# Altium schematic symbol library ic-power-supply.SchLib: 72 symbols
Pins are listed as number, name and electrical type; pins without a type are passive.

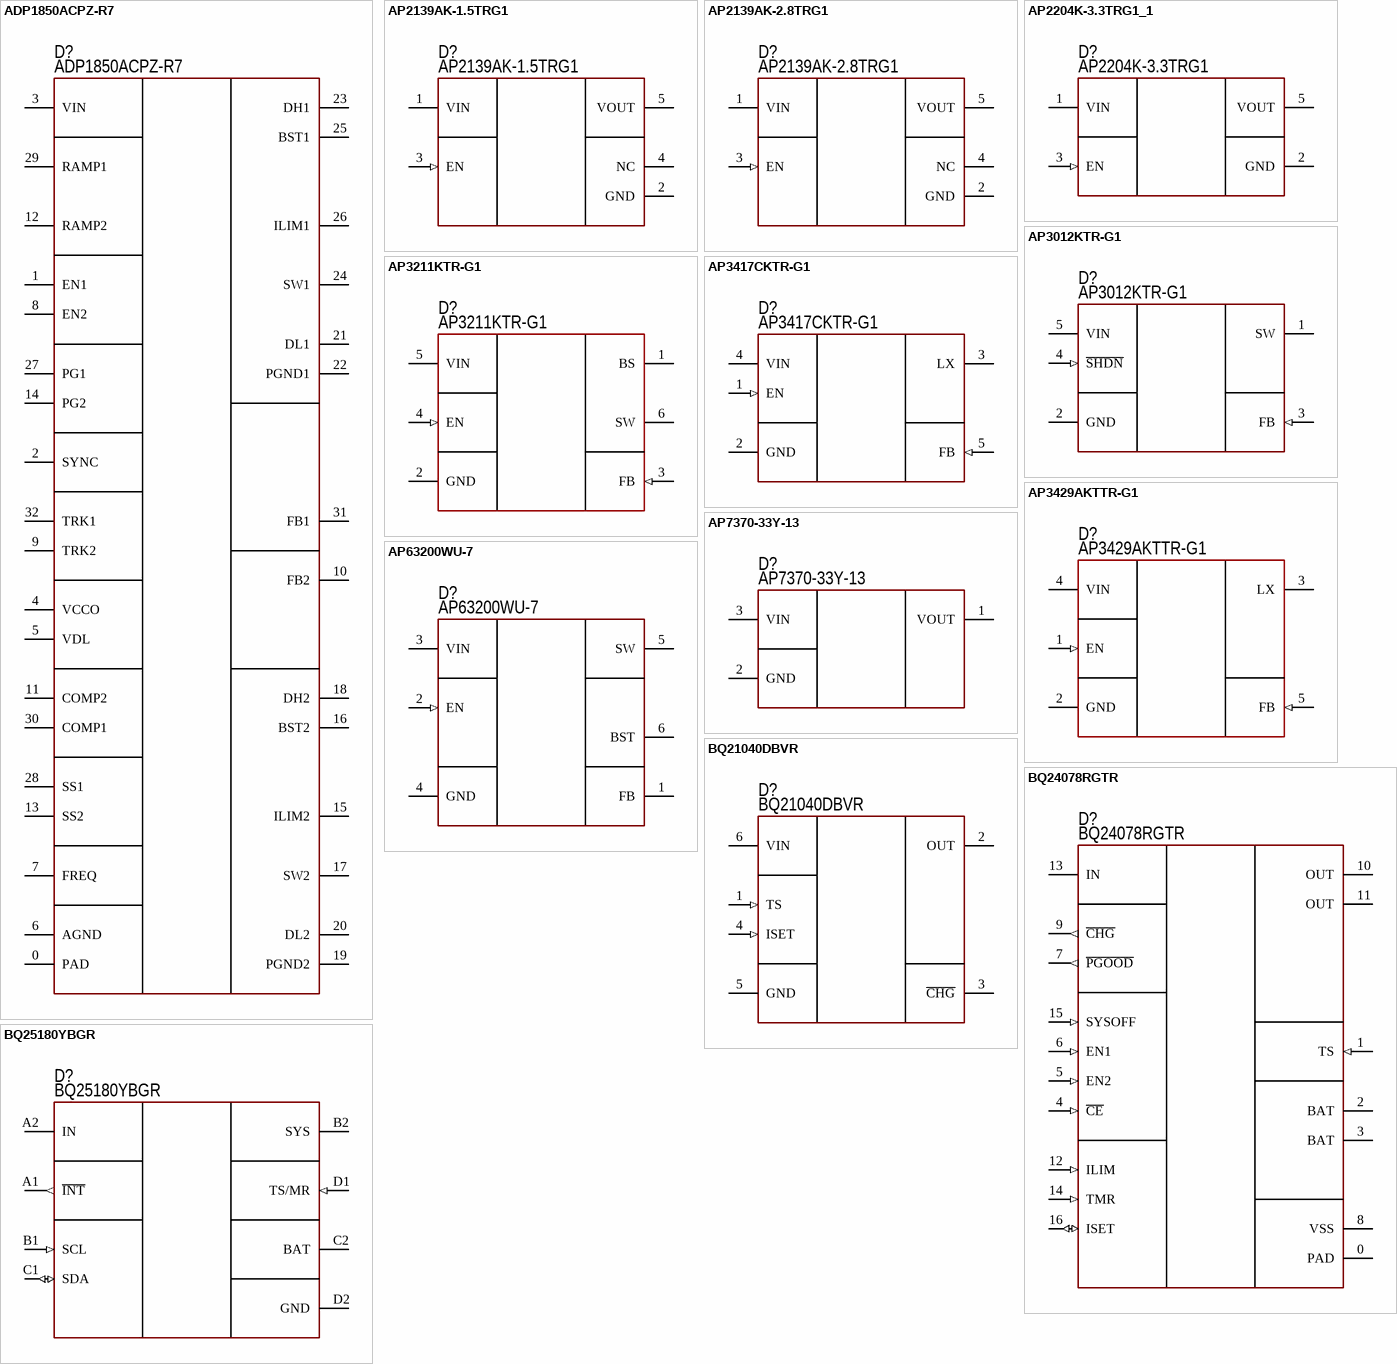
[diagram p0: symbols ADP1850ACPZ-R7 to BQ25180YBGR]

## ADP1850ACPZ-R7
designator D?  PartNumber: ADP1850ACPZ-R7
2 phase buck; Manufacturer: Analog Devices; ValueManufacturerPartNumber: DC/DC buck converter, input 2.75...20V, 200...1500 kHz, output 0.6...17V, 2 phase, -40...+85°C, 32-VFQFN (5x5); VoltageInput: input 2.75...20V; Frequency: 200...1500 kHz; CurrentOutput: 2 phase; VoltageOutput: output 0.6...17V; HelpURL: https://www.digikey.com/product-detail/en/analog-devices-inc/ADP1850ACPZ-R7/ADP1850ACPZ-R7CT-ND/2609853; Package: 32-VFQFN (5x5); ComponentType: DC/DC buck converter; Temperature: -40...+85°C
footprint 32-QFN (5x5 mm, pitch 0.5 mm, power pad)
pins: 0 PAD, 1 EN1, 2 SYNC, 3 VIN, 4 VCCO, 5 VDL, 6 AGND, 7 FREQ, 8 EN2, 9 TRK2, 10 FB2, 11 COMP2, 12 RAMP2, 13 SS2, 14 PG2, 15 ILIM2, 16 BST2, 17 SW2, 18 DH2, 19 PGND2, 20 DL2, 21 DL1, 22 PGND1, 23 DH1, 24 SW1, 25 BST1, 26 ILIM1, 27 PG1, 28 SS1, 29 RAMP1, 30 COMP1, 31 FB1, 32 TRK1

## AP2139AK-1.5TRG1
designator D?  PartNumber: AP2139AK-1.5TRG1
Linear voltage regulator 1.5V; Manufacturer: Diodes Incorporated; ValueManufacturerPartNumber: Linear voltage regulator, 1.6...6V, 1V, 1.5V, 0.25A, -40...+85°C, SOT23-5; VoltageInput: 1.6...6V; MaxDropout: 1V; CurrentOutput: 0.25A; HelpURL: https://www.lcsc.com/datasheet/lcsc_datasheet_2304140030_Diodes-Incorporated-AP2139AK-1-5TRG1_C460336.pdf; Package: SOT23-5; ComponentType: Linear voltage regulator; Temperature: -40...+85°C; VoltageOutput: 1.5V
footprint SOT23-5 (pitch 0.95 mm)
pins: 1 VIN (power), 2 GND (power), 3 EN (in), 4 NC, 5 VOUT (power)

## AP2139AK-2.8TRG1
designator D?  PartNumber: AP2139AK-2.8TRG1
Linear voltage regulator 2.8V; Manufacturer: Diodes Incorporated; ValueManufacturerPartNumber: Linear voltage regulator, 2.9...6V, 0.5V, 1.5V, 0.25A, -40...+85°C, SOT23-5; VoltageInput: 2.9...6V; MaxDropout: 0.5V; CurrentOutput: 0.25A; VoltageOutput: 1.5V; HelpURL: https://www.lcsc.com/datasheet/lcsc_datasheet_2304140030_Diodes-Incorporated-AP2139AK-1-5TRG1_C460336.pdf; Package: SOT23-5; ComponentType: Linear voltage regulator; Temperature: -40...+85°C
footprint SOT23-5 (pitch 0.95 mm)
pins: 1 VIN (power), 2 GND (power), 3 EN (in), 4 NC, 5 VOUT (power)

## AP2204K-3.3TRG1_1
designator D?  PartNumber: AP2204K-3.3TRG1
Linear voltage regulator; Manufacturer: Diodes Incorporated; ValueManufacturerPartNumber: Linear voltage regulator, input 4...24V, 0.5V, output 3.3V, 0.15A, -40...+85°C, SOT23-6; VoltageInput: input 4...24V; MaxDropout: 0.5V; CurrentOutput: 0.15A; VoltageOutput: output 3.3V; HelpURL: https://www.digikey.com/product-detail/en/diodes-incorporated/AP2204K-3.3TRG1/AP2204K-3.3TRG1DICT-ND/4505288; Package: SOT23-6; ComponentType: Linear voltage regulator; Temperature: -40...+85°C
footprint SOT23-5 (pitch 0.95 mm)
pins: 1 VIN, 2 GND, 3 EN (in), 5 VOUT

## AP3012KTR-G1
designator D?  PartNumber: AP3012KTR-G1
Boost converter; Manufacturer: Diodes Incorporated; ValueManufacturerPartNumber: DC/DC boost converter, input 2.6...16V, 1.5MHz, output 3...29V, 0.5A, -40...+85°C, SOT23-5; VoltageInput: input 2.6...16V; Frequency: 1.5MHz; CurrentOutput: 0.5A; VoltageOutput: output 3...29V; HelpURL: https://www.digikey.com/product-detail/en/diodes-incorporated/AP3012KTR-G1/AP3012KTR-G1DICT-ND/4505297; Package: SOT23-5; ComponentType: DC/DC boost converter; Temperature: -40...+85°C
footprint SOT23-5 (pitch 0.95 mm)
pins: 1 SW, 2 GND, 3 FB (in), 4 ~{SHDN} (in), 5 VIN

## AP3211KTR-G1
designator D?  PartNumber: AP3211KTR-G1
Buck converter; Manufacturer: Diodes Incorporated; ValueManufacturerPartNumber: DC/DC buck converter, input 4.5...18V, 1.4MHz, output 0.81...15V, 1.5A, -40...+85°C, SOT23-6; VoltageInput: input 4.5...18V; Frequency: 1.4MHz; CurrentOutput: 1.5A; VoltageOutput: output 0.81...15V; HelpURL: https://www.digikey.com/product-detail/en/diodes-incorporated/AP3211KTR-G1/AP3211KTR-G1DICT-ND/4505305; Package: SOT23-6; ComponentType: DC/DC buck converter; Temperature: -40...+85°C
footprint SOT23-6 (pitch 0.95 mm)
pins: 1 BS, 2 GND, 3 FB (in), 4 EN (in), 5 VIN, 6 SW

## AP3417CKTR-G1
designator D?  PartNumber: AP3417CKTR-G1
Buck converter; Manufacturer: Diodes Incorporated; ValueManufacturerPartNumber: DC/DC buck converter, input 2.5...5.5V, 1.5MHz, output 0.6...4.95V, 1A, -40...+85°C, SOT23-5; VoltageInput: input 2.5...5.5V; Frequency: 1.5MHz; CurrentOutput: 1A; VoltageOutput: output 0.6...4.95V; HelpURL: https://www.digikey.com/product-detail/en/diodes-incorporated/AP3417CKTR-G1/AP3417CKTR-G1DICT-ND/4505308; Package: SOT23-5; ComponentType: DC/DC buck converter; Temperature: -40...+85°C
footprint SOT23-6 (pitch 0.95 mm)
pins: 1 EN (in), 2 GND, 3 LX, 4 VIN, 5 FB (in)

## AP3429AKTTR-G1
designator D?  PartNumber: AP3429AKTTR-G1
Buck converter; Manufacturer: Diodes Incorporated; ValueManufacturerPartNumber: DC/DC buck converter, input 2.7...5.5V, 1MHz, output 0.6...5V, 2A, -40...+85°C, SOT23-6; VoltageInput: input 2.7...5.5V; Frequency: 1MHz; CurrentOutput: 2A; VoltageOutput: output 0.6...5V; HelpURL: https://www.digikey.com/product-detail/en/diodes-incorporated/AP3429AKTTR-G1/AP3429AKTTR-G1DICT-ND/5359842; Package: SOT23-6; ComponentType: DC/DC buck converter; Temperature: -40...+85°C
footprint SOT23-6 (pitch 0.95 mm)
pins: 1 EN (in), 2 GND, 3 LX, 4 VIN, 5 FB (in)

## AP7370-33Y-13
designator D?  PartNumber: AP7370-33Y-13
Linear voltage regulator; Manufacturer: Diodes; ValueManufacturerPartNumber: Linear voltage regulator, max input 18V, 0.6V, output 3.3V, 300mA, -40...+125°C, SOT-89; VoltageInput: max input 18V; MaxDropout: 0.6V; CurrentOutput: 300mA; VoltageOutput: output 3.3V; HelpURL: https://www.digikey.com/product-detail/en/diodes-incorporated/AP7370-33Y-13/AP7370-33Y-13DICT-ND/10235832; Package: SOT-89; ComponentType: Linear voltage regulator; Temperature: -40...+125°C
footprint SOT89
pins: 1 VOUT (power), 2 GND (power), 3 VIN (power)

## AP63200WU-7
designator D?  PartNumber: AP63200WU-7
Buck converter; Manufacturer: Diodes; ValueManufacturerPartNumber: DC/DC buck converter, input 3.8...32V, 500kHz, output 1.2...12V, 2A, -40...+85°C, SOT23-6; VoltageInput: input 3.8...32V; Frequency: 500kHz; CurrentOutput: 2A; VoltageOutput: output 1.2...12V; HelpURL: https://www.digikey.com/en/products/detail/diodes-incorporated/AP63200WU-7/9858423; Package: SOT23-6; ComponentType: DC/DC buck converter; Temperature: -40...+85°C
footprint SOT23-6 (pitch 0.95 mm)
pins: 1 FB, 2 EN (in), 3 VIN, 4 GND, 5 SW, 6 BST

## BQ21040DBVR
designator D?  PartNumber: BQ21040DBVR
Charger; Manufacturer: Texas Instruments; ValueManufacturerPartNumber: Charger li-ion battery, input 4.5...6.25V, output 4.2V, 0.8A, 0...+125°C, SOT23-6; VoltageInput: input 4.5...6.25V; CurrentOutput: 0.8A; VoltageOutput: output 4.2V; HelpURL: https://www.digikey.com/product-detail/en/texas-instruments/BQ21040DBVR/296-47315-1-ND/7688325; Package: SOT23-6; ComponentType: Charger li-ion battery; Temperature: 0...+125°C
footprint SOT23-6 (pitch 0.95 mm)
pins: 1 TS (in), 2 OUT, 3 ~{CHG}, 4 ISET (in), 5 GND, 6 VIN

## BQ24078RGTR
designator D?  PartNumber: BQ24078RGTR
Charger; Manufacturer: Texas Instruments; VoltageInput: input 4.35...26V; CurrentOutput: 1.5A; HelpURL: https://www.ti.com/lit/ds/symlink/bq24078.pdf?ts=1664145997360&ref_url=https%253A%252F%252Fwww.ti.com%252Fpower-management%252Fbattery-management%252Fcharger-ics%252Fproducts.html; Package: VQFN (16); ComponentType: Charger li-ion battery; ValueManufacturerPartNumber: =ComponentType+', '+VoltageInput+', '+VoltageOutput+', '+CurrentOutput+', '+Temperature+', '+Package; Temperature: -40...+125°C
footprint 16-QFN (3x3) (3x3 mm, pitch 0.5 mm)
pins: 0 PAD (power), 1 TS (in), 2 BAT (power), 3 BAT (power), 4 ~{CE} (in), 5 EN2 (in), 6 EN1 (in), 7 ~{PGOOD} (out), 8 VSS (power), 9 ~{CHG} (out), 10 OUT (power), 11 OUT (power), 12 ILIM (in), 13 IN (power), 14 TMR (in), 15 SYSOFF (in), 16 ISET (io)

## BQ25180YBGR
designator D?  PartNumber: BQ25180YBGR
Charger; Manufacturer: Texas Instruments; VoltageInput: input 4.35...26V; CurrentOutput: 1A; HelpURL: https://www.ti.com/lit/ds/symlink/bq25180.pdf?ts=1686486458082&ref_url=https%253A%252F%252Fwww.ti.com%252Fpower-management%252Fbattery-management%252Fcharger-ics%252Fproducts.html; Package: 8-DSBGA; ComponentType: Charger li-ion battery; ValueManufacturerPartNumber: =ComponentType+', '+VoltageInput+', '+VoltageOutput+', '+CurrentOutput+', '+Temperature+', '+Package; Temperature: -40...+125°C
footprint 8-DSBGA (1.783 x 0.983 mm, pitch 0.4 mm)
pins: A1 ~{INT} (out), A2 IN (power), B1 SCL (in), B2 SYS (power), C1 SDA (io), C2 BAT (power), D1 TS/MR (in), D2 GND (power)

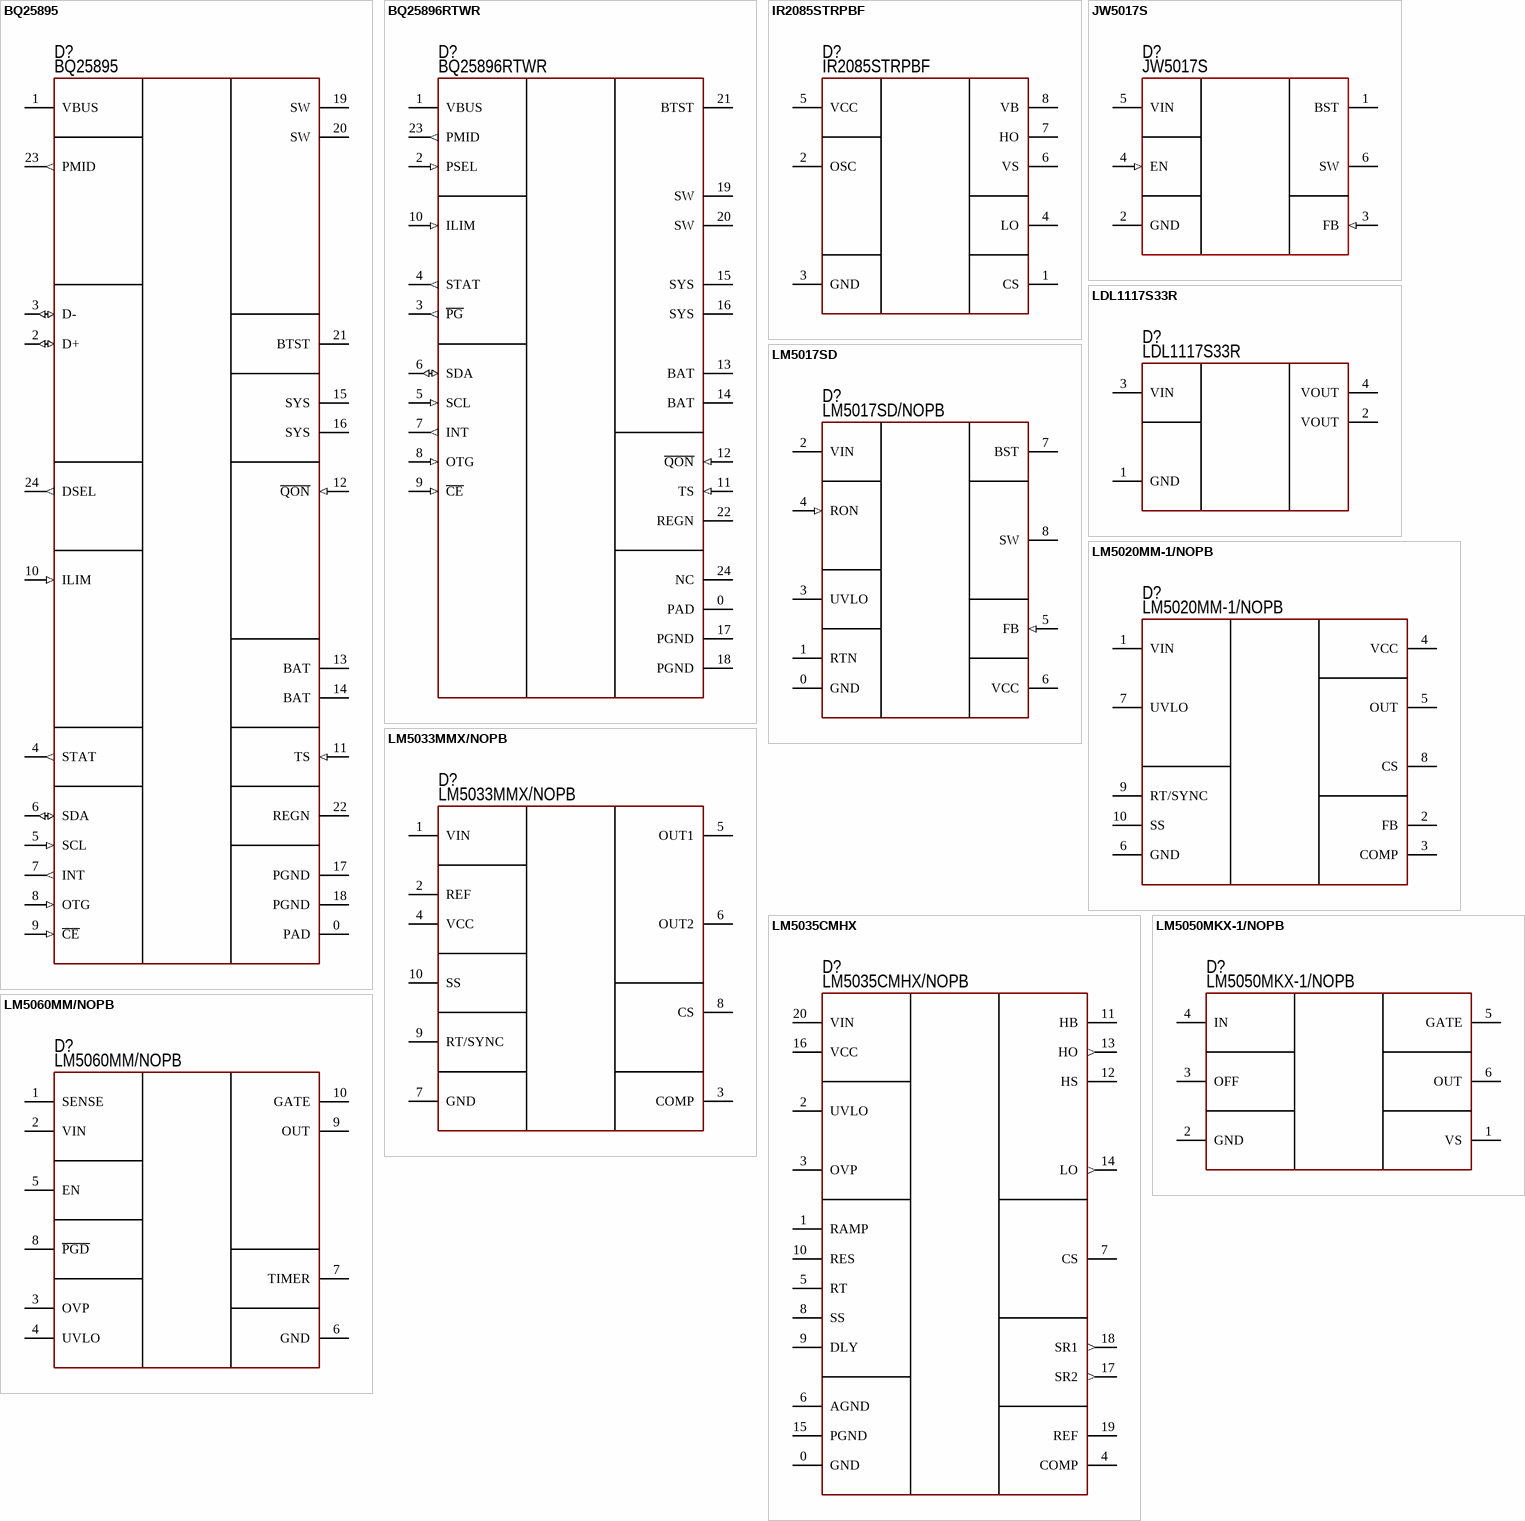
[diagram p1: symbols BQ25895 to LM5060MM/NOPB]

## BQ25895
designator D?  PartNumber: BQ25895
PWM controller; Manufacturer: Texas Instruments; VoltageInput: supply 3.9...14V; OutputType: Internal driver; HelpURL: https://www.ti.com/lit/ds/symlink/bq25895.pdf?ts=1612770160940&ref_url=https%253A%252F%252Fwww.google.com%252F; Package: WQFN (24); ComponentType: Charger; ValueManufacturerPartNumber: =ComponentType+', '+VoltageInput+', '+Frequency+', '+OutputType+', '+Temperature+', '+Package; Temperature: -40...+125°C
footprint 24-QFN (4x4 mm, pitch 0.5 mm, power pad)
pins: 0 PAD (power), 1 VBUS (power), 2 D+ (io), 3 D- (io), 4 STAT (out), 5 SCL (in), 6 SDA (io), 7 INT (out), 8 OTG (in), 9 ~{CE} (in), 10 ILIM (in), 11 TS (in), 12 ~{QON} (in), 13 BAT (power), 14 BAT (power), 15 SYS (power), 16 SYS (power), 17 PGND (power), 18 PGND (power), 19 SW (power), 20 SW (power), 21 BTST (power), 22 REGN (power), 23 PMID (out), 24 DSEL (out)

## BQ25896RTWR
designator D?  PartNumber: BQ25896RTWR
Charger; Manufacturer: Texas Instruments; VoltageInput: input 3.9...14V; CurrentOutput: 3A; HelpURL: https://www.ti.com/lit/ds/symlink/bq25896.pdf?ts=1662442523843; Package: WQFN (24); ComponentType: Charger li-ion battery; ValueManufacturerPartNumber: =ComponentType+', '+VoltageInput+', '+VoltageOutput+', '+CurrentOutput+', '+Temperature+', '+Package; Temperature: 0...+125°C
footprint 24-QFN (4X4) (4x4 mm, pitch 0.5 mm, power pad)
pins: 0 PAD (power), 1 VBUS (power), 2 PSEL (in), 3 ~{PG} (out), 4 STAT (out), 5 SCL (in), 6 SDA (io), 7 INT (out), 8 OTG (in), 9 ~{CE} (in), 10 ILIM (in), 11 TS (in), 12 ~{QON} (in), 13 BAT (power), 14 BAT (power), 15 SYS (power), 16 SYS (power), 17 PGND (power), 18 PGND (power), 19 SW (power), 20 SW (power), 21 BTST (power), 22 REGN (power), 23 PMID (out), 24 NC

## IR2085STRPBF
designator D?  PartNumber: IR2085STRPBF
PWM controller; Manufacturer: Infineon; ValueManufacturerPartNumber: PWM half-bridge controller, supply 10...15V, up to 500kHz, bootstrap 100V, -40...+105°C, 8-SOIC; VoltageInput: supply 10...15V; Frequency: up to 500kHz; OutputType: bootstrap 100V; HelpURL: https://www.digikey.com/product-detail/en/infineon-technologies/IR2085STRPBF/IR2085STRPBFCT-ND/812612; Package: 8-SOIC; ComponentType: PWM half-bridge controller; Temperature: -40...+105°C
footprint 8-SOIC (pitch 1.27 mm)
pins: 1 CS, 2 OSC, 3 GND, 4 LO, 5 VCC, 6 VS, 7 HO, 8 VB

## JW5017S
designator D?  PartNumber: JW5017S
Buck converter; Manufacturer: JoulWatt; ValueManufacturerPartNumber: DC/DC buck converter, input 4.5...26V, 1.2MHz, output 0.8...24V, 1.2A, -40...+85°C, SOT23-6; VoltageInput: input 4.5...26V; Frequency: 1.2MHz; CurrentOutput: 1.2A; VoltageOutput: output 0.8...24V; HelpURL: https://lcsc.com/product-detail/DC-DC-Converters_JoulWatt-Tech-JW5017S_C371172.html; Package: SOT23-6; ComponentType: DC/DC buck converter; Temperature: -40...+85°C
footprint SOT23-6 (pitch 0.95 mm)
pins: 1 BST, 2 GND, 3 FB (in), 4 EN (in), 5 VIN, 6 SW

## LDL1117S33R
designator D?  PartNumber: LDL1117S33R
Linear voltage regulator; Manufacturer: STMicroelectronics; ValueManufacturerPartNumber: Linear voltage regulator, input 3.9...18V, 0.6V, output 3.3V, 1.2A, -40...+85°C, SOT223; VoltageInput: input 3.9...18V; MaxDropout: 0.6V; CurrentOutput: 1.2A; VoltageOutput: output 3.3V; HelpURL: https://www.digikey.com/product-detail/en/stmicroelectronics/LDL1117S33R/497-17239-1-ND/7102079; Package: SOT223; ComponentType: Linear voltage regulator; Temperature: -40...+85°C
footprint SOT223 (SOT223, 4-Leads, Body 6,50x7,00mm (avg), Pitch 2,30mm, IPC Medium Density)
pins: 1 GND (power), 2 VOUT (power), 3 VIN (power), 4 VOUT (power)

## LM5017SD
designator D?  PartNumber: LM5017SD/NOPB
Buck converter; Manufacturer: Texas Instruments; ValueManufacturerPartNumber: DC/DC buck converter, input 7.5...100V, 1MHz, output 1.225...90V, 0.6A, -40...+125°C, 8-WSON; VoltageInput: input 7.5...100V; Frequency: 1MHz; CurrentOutput: 0.6A; VoltageOutput: output 1.225...90V; HelpURL: https://www.digikey.com/product-detail/en/texas-instruments/LM5017SD-NOPB/LM5017SD-NOPBCT-ND/3137455; Package: 8-WSON; ComponentType: DC/DC buck converter; Temperature: -40...+125°C
footprint 8-WSON (4x4) (4x4 mm, pitch 0.8 mm, power pad)
pins: 0 GND, 1 RTN, 2 VIN, 3 UVLO, 4 RON (in), 5 FB (in), 6 VCC, 7 BST, 8 SW

## LM5020MM-1/NOPB
designator D?  PartNumber: LM5020MM-1/NOPB
PWM controller; Manufacturer: Texas Instruments; ValueManufacturerPartNumber: PWM controller, supply 13...90V, 1MHz, External switch, -40...+105°C, 10-VSSOP; VoltageInput: supply 13...90V; Frequency: 1MHz; OutputType: External switch; HelpURL: https://www.digikey.com/product-detail/en/texas-instruments/LM5020MM-1-NOPB/LM5020MM-1-NOPBCT-ND/665721; Package: 10-VSSOP; ComponentType: PWM controller; Temperature: -40...+105°C
footprint 10-MSOP (3x3 mm, pitch 0.5 mm)
pins: 1 VIN, 2 FB, 3 COMP, 4 VCC, 5 OUT, 6 GND, 7 UVLO, 8 CS, 9 RT/SYNC, 10 SS

## LM5033MMX/NOPB
designator D?  PartNumber: LM5033MMX/NOPB
PWM controller; Manufacturer: Texas Instruments; ValueManufacturerPartNumber: PWM controller, supply 15...90V, 200/600 kHz, External switch, -40...+125°C, 10-MSOP; VoltageInput: supply 15...90V; Frequency: 200/600 kHz; OutputType: External switch; HelpURL: https://www.digikey.com/product-detail/en/texas-instruments/LM5033MMX-NOPB/296-35293-1-ND/3739001; Package: 10-MSOP; ComponentType: PWM controller; Temperature: -40...+125°C
footprint 10-MSOP (3x3 mm, pitch 0.5 mm)
pins: 1 VIN, 2 REF, 3 COMP, 4 VCC, 5 OUT1, 6 OUT2, 7 GND, 8 CS, 9 RT/SYNC, 10 SS

## LM5035CMHX
designator D?  PartNumber: LM5035CMHX/NOPB
PWM controller; Manufacturer: Texas Instruments; ValueManufacturerPartNumber: PWM controller half bridge, supply 13...105V, 2 MHz, Internal driver, -40...+125°C, 20-PowerTSSOP; VoltageInput: supply 13...105V; Frequency: 2 MHz; OutputType: Internal driver; HelpURL: https://www.digikey.com/product-detail/en/texas-instruments/LM5035CMHX-NOPB/296-45545-1-ND/6823175; Package: 20-PowerTSSOP; ComponentType: PWM controller half bridge; Temperature: -40...+125°C
footprint 20-TSSOP-PAD (pitch 0.65 mm, power pad)
pins: 0 GND, 1 RAMP, 2 UVLO, 3 OVP, 4 COMP, 5 RT, 6 AGND, 7 CS, 8 SS, 9 DLY, 10 RES, 11 HB, 12 HS, 13 HO (out), 14 LO (out), 15 PGND, 16 VCC, 17 SR2 (out), 18 SR1 (out), 19 REF, 20 VIN

## LM5050MKX-1/NOPB
designator D?  PartNumber: LM5050MKX-1/NOPB
Ideal diode; Manufacturer: Texas Instruments; ValueManufacturerPartNumber: Ideal diode, input 5...75V, 486ns, supply 130 µA, 2A peak gate, -40...+125°C, SOT23-6; VoltageInput: input 5...75V; Frequency: 486ns; CurrentOutput: 2A peak gate; VoltageOutput: supply 130 µA; HelpURL: https://www.digikey.com/product-detail/en/texas-instruments/LM5050MKX-1-NOPB/296-46427-1-ND/7033600; Package: SOT23-6; ComponentType: Ideal diode; Temperature: -40...+125°C
footprint SOT23-6 (pitch 0.95 mm)
pins: 1 VS, 2 GND, 3 OFF, 4 IN, 5 GATE, 6 OUT

## LM5060MM/NOPB
designator D?  PartNumber: LM5060MM/NOPB
PWM controller; Manufacturer: Texas Instruments; ValueManufacturerPartNumber: IC power managment, supply 5.5...65V, N-channel, External switch, -40...+125°C, 10-MSOP; VoltageInput: supply 5.5...65V; TypeController: N-channel; OutputType: External switch; HelpURL: https://www.digikey.com/product-detail/en/texas-instruments/LM5060MM-NOPB/296-39024-1-ND/5143071; Package: 10-MSOP; ComponentType: IC power managment; Temperature: -40...+125°C
footprint 10-TSSOP (3x3 mm, pitch 0.5 mm)
pins: 1 SENSE, 2 VIN, 3 OVP, 4 UVLO, 5 EN, 6 GND, 7 TIMER, 8 ~{PGD}, 9 OUT, 10 GATE

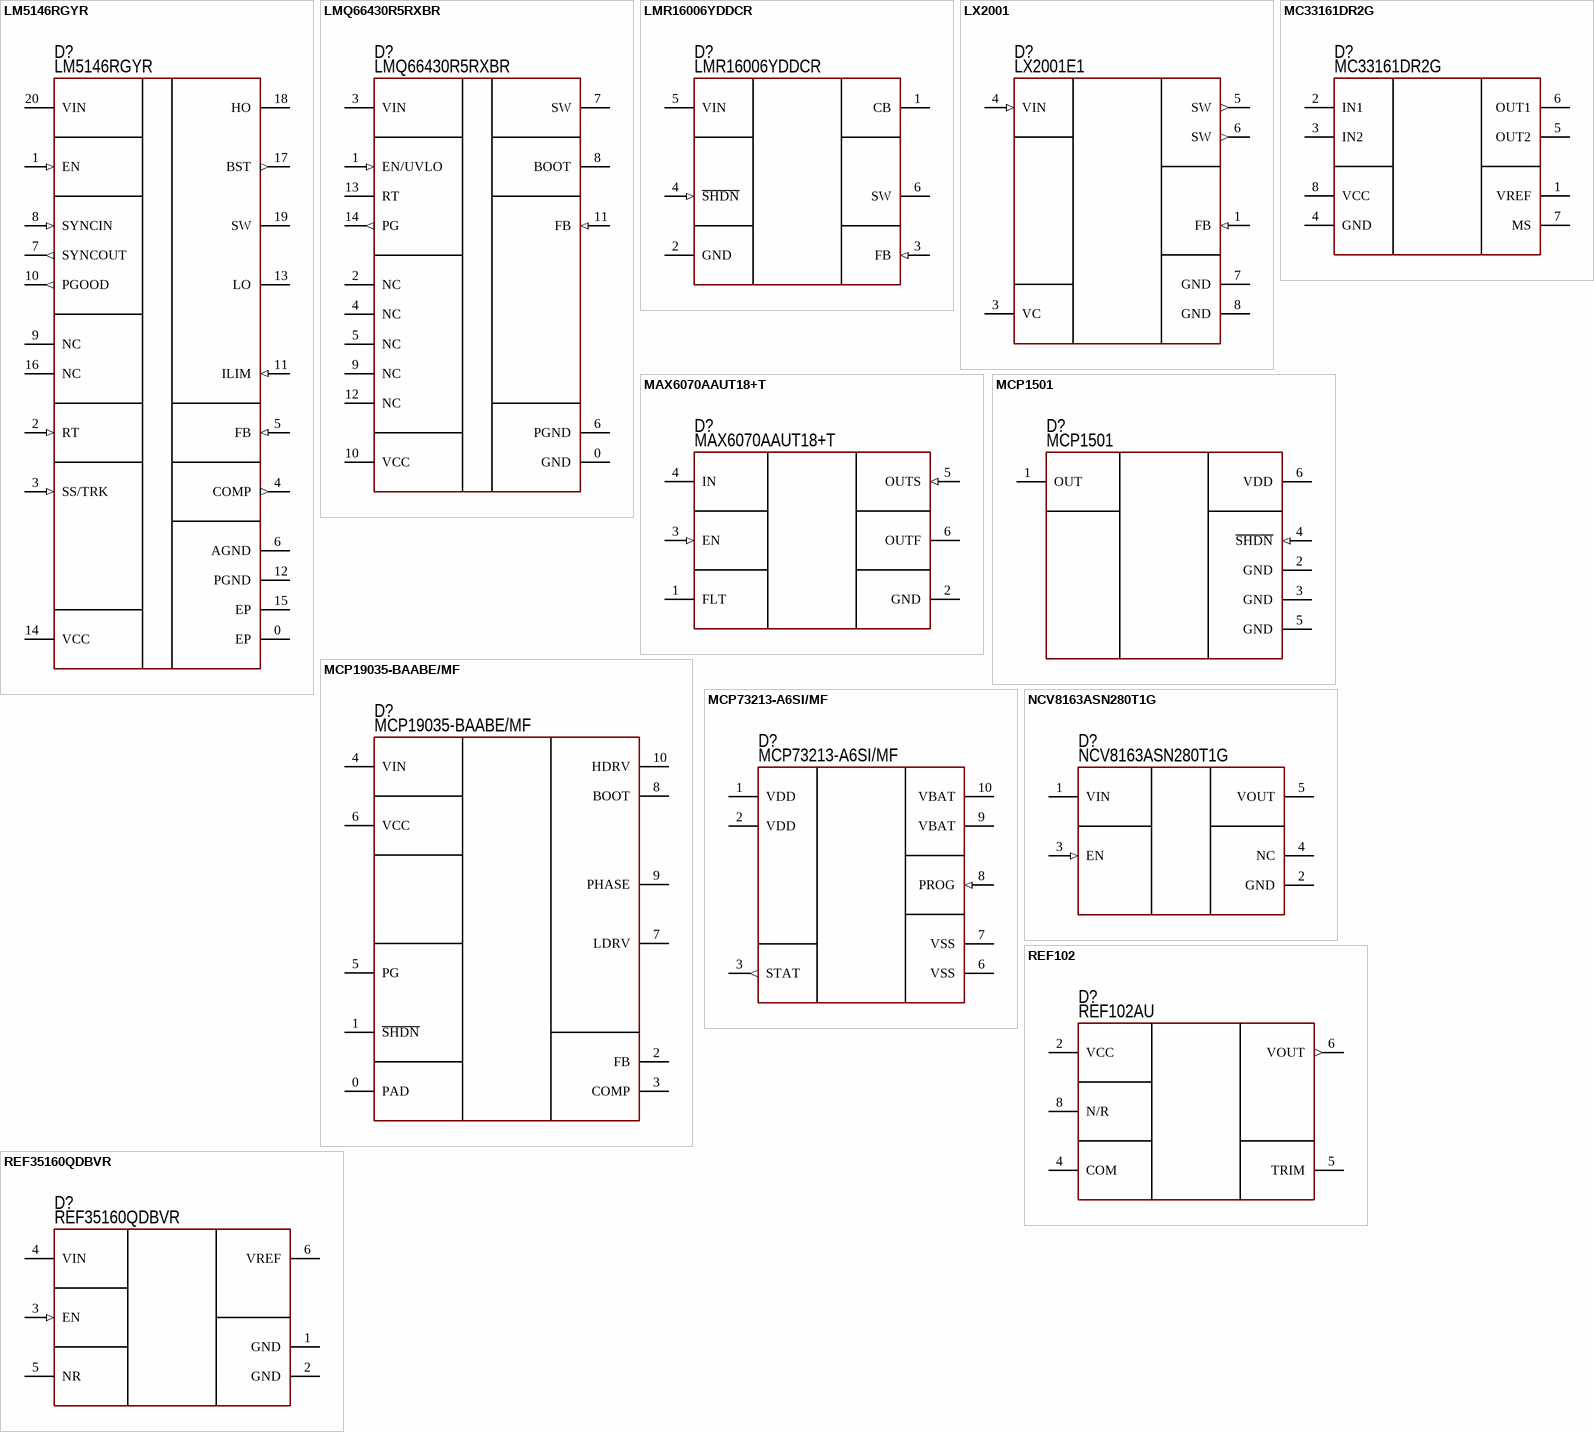
[diagram p2: symbols LM5146RGYR to REF35160QDBVR]

## LM5146RGYR
designator D?  PartNumber: LM5146RGYR
Buck (External FET); Manufacturer: Texas Instrumensts; ValueManufacturerPartNumber: DC/DC buck converter, input 5.5...100V, 0.1...1MHz, 0.8 V...60V, 2.3-A source, 3.5-A sink, -40...+125°C, 20-VQFN; VoltageInput: input 5.5...100V; Frequency: 0.1...1MHz; CurrentOutput: 2.3-A source, 3.5-A sink; VoltageOutput: 0.8 V...60V; HelpURL: https://www.ti.com/lit/ds/symlink/tps62825.pdf?HQS=dis-mous-null-mousermode-dsf-pf-null-wwe&ts=1664032941982&ref_url=https%253A%252F%252Fwww.mouser.ee%252F; Package: 20-VQFN; ComponentType: DC/DC buck converter; Temperature: -40...+125°C
footprint 20-VQFN (3.5x4.5) (3.5x4.5 mm, pitch 0.5 mm)
pins: 0 EP, 1 EN (in), 2 RT (in), 3 SS/TRK (in), 4 COMP (out), 5 FB (in), 6 AGND (power), 7 SYNCOUT (out), 8 SYNCIN (in), 9 NC, 10 PGOOD (out), 11 ILIM (in), 12 PGND (power), 13 LO (power), 14 VCC (power), 15 EP, 16 NC, 17 BST (out), 18 HO (power), 19 SW (power), 20 VIN (power)

## LMQ66430R5RXBR
designator D?  PartNumber: LMQ66430R5RXBR
Buck converter; Manufacturer: Texas Instrumensts; ValueManufacturerPartNumber: DC/DC buck converter, 3...36V, 2.2MHz, 1...35V, 3A, -40...+125°C, 14-VQFN; VoltageInput: 3...36V; Frequency: 2.2MHz; CurrentOutput: 3A; VoltageOutput: 1...35V; HelpURL: https://www.ti.com/lit/ds/symlink/lmq66420.pdf?ts=1721758216711&ref_url=https%253A%252F%252Fwww.ti.com%252Fpower-management%252Facdc-dcdc-converters%252Fproducts.html; Package: 14-VQFN; ComponentType: DC/DC buck converter; Temperature: -40...+125°C
footprint 14-VQFN
pins: 0 GND (power), 1 EN/UVLO (in), 2 NC, 3 VIN (power), 4 NC, 5 NC, 6 PGND (power), 7 SW (power), 8 BOOT (power), 9 NC, 10 VCC, 11 FB (in), 12 NC, 13 RT, 14 PG (out)

## LMR16006YDDCR
designator D?  PartNumber: LMR16006YDDCR
Buck converter; Manufacturer: Texas Instruments; ValueManufacturerPartNumber: DC/DC buck converter, input 4...60V, 2.1MHz, output 0.765...55V, 0.6A, -40...+125°C, SOT23-6; VoltageInput: input 4...60V; Frequency: 2.1MHz; CurrentOutput: 0.6A; VoltageOutput: output 0.765...55V; HelpURL: https://www.digikey.com/en/products/detail/texas-instruments/LMR16006YDDCR/5034007; Package: SOT23-6; ComponentType: DC/DC buck converter; Temperature: -40...+125°C
footprint SOT23-6 (pitch 0.95 mm)
pins: 1 CB, 2 GND, 3 FB (in), 4 ~{SHDN} (in), 5 VIN, 6 SW

## LX2001
designator D?  PartNumber: LX2001E1
Buck converter; Manufacturer: XLSEMI; ValueManufacturerPartNumber: DC/DC buck converter, input 8...45V, 150KHz, 5V, 1.8A, -40...+125°C, 8-SOIC; VoltageInput: input 8...45V; Frequency: 150KHz; CurrentOutput: 1.8A; VoltageOutput: 5V; HelpURL: https://lcsc.com/product-detail/DC-DC-Converters_XLSEMI-XL2001E1_C73336.html; Package: 8-SOIC; ComponentType: DC/DC buck converter; Temperature: -40...+125°C
footprint 8-SOIC (pitch 1.27 mm)
pins: 1 FB (in), 3 VC, 4 VIN (in), 5 SW (out), 6 SW (out), 7 GND, 8 GND

## MAX6070AAUT18+T
designator D?  PartNumber: MAX6070AAUT18+T
Voltage References; Manufacturer: Maxim Integrated; ValueManufacturerPartNumber: Voltage Reference, 2...5.5V, 1.8V, ±0.04% 10ppm/°C, -40...+125°C, SOT-23-6; VoltageInput: 2...5.5V; VoltageOutput: 1.8V; Tolerance: ±0.04% 10ppm/°C; HelpURL: https://www.digikey.com/en/products/detail/texas-instruments/REF102AU/301475; Package: SOT-23-6; ComponentType: Voltage Reference; Temperature: -40...+125°C
footprint SOT23-6 (pitch 0.95 mm)
pins: 1 FLT, 2 GND (power), 3 EN (in), 4 IN (power), 5 OUTS (in), 6 OUTF (power)

## MC33161DR2G
designator D?  PartNumber: MC33161DR2G
Supervisor; Manufacturer: ON Semiconductor; ValueManufacturerPartNumber: Multi-voltage supervisor, max supply 40V, Open drain, -40...+105°C, 8-SOIC; VoltageInput: max supply 40V; OutputType: Open drain; HelpURL: https://www.digikey.com/product-detail/en/on-semiconductor/MC33161DR2G/MC33161DR2GOSCT-ND/1139692; Package: 8-SOIC; ComponentType: Multi-voltage supervisor; Temperature: -40...+105°C
footprint 8-SOIC (pitch 1.27 mm)
pins: 1 VREF, 2 IN1, 3 IN2, 4 GND, 5 OUT2, 6 OUT1, 7 MS, 8 VCC

## MCP1501
designator D?  PartNumber: MCP1501
Voltage References; Manufacturer: Microchip Technology; ValueManufacturerPartNumber: Voltage Reference, 2...5.5V, 1.8V, 0.1% 50ppm, -40...+125°C, SOT-23-6; VoltageInput: 2...5.5V; VoltageOutput: 1.8V; Tolerance: 0.1% 50ppm; HelpURL: https://eu.mouser.com/datasheet/2/268/MCP1501_Data_Sheet_DS20005474F-2932251.pdf; Package: SOT-23-6; ComponentType: Voltage Reference; Temperature: -40...+125°C
footprint SOT23-6 (pitch 0.95 mm)
pins: 1 OUT (power), 2 GND (power), 3 GND (power), 4 ~{SHDN} (in), 5 GND (power), 6 VDD (power)

## MCP19035-BAABE/MF
designator D?  PartNumber: MCP19035-BAABE/MF
Buck controller; Manufacturer: Microchip; ValueManufacturerPartNumber: DC/DC buck controller, input 4.5...30V, 300/600 kHz, output 0.6...25V, 2 phase, -40...+125°C, 10-DFN (3x3); VoltageInput: input 4.5...30V; Frequency: 300/600 kHz; CurrentOutput: 2 phase; VoltageOutput: output 0.6...25V; HelpURL: https://www.digikey.com/product-detail/en/microchip-technology/MCP19035-BAABE-MF/MCP19035-BAABE-MF-ND/4079920; Package: 10-DFN (3x3); ComponentType: DC/DC buck controller; Temperature: -40...+125°C
footprint 10-DFN (3x3 mm, pitch 0.5 mm, power pad)
pins: 0 PAD, 1 ~{SHDN}, 2 FB, 3 COMP, 4 VIN, 5 PG, 6 VCC, 7 LDRV, 8 BOOT, 9 PHASE, 10 HDRV

## MCP73213-A6SI/MF
designator D?  PartNumber: MCP73213-A6SI/MF
Charger; Manufacturer: Microchip Technology; ValueManufacturerPartNumber: Charger  2S li-ion battery, input 8.8...13V, output 8.4V, 1.1A, -40...+85°C, 10-DFN; VoltageInput: input 8.8...13V; CurrentOutput: 1.1A; VoltageOutput: output 8.4V; HelpURL: https://www.digikey.com/products/en?keywords=MCP73213-A6SI%2FMF; Package: 10-DFN; ComponentType: Charger  2S li-ion battery; Temperature: -40...+85°C
footprint 10-DFN (3x3 mm, pitch 0.5 mm, power pad)
pins: 1 VDD, 2 VDD, 3 STAT (out), 6 VSS, 7 VSS, 8 PROG (in), 9 VBAT, 10 VBAT

## NCV8163ASN280T1G
designator D?  PartNumber: NCV8163ASN280T1G
Ultra low noise LDO; Manufacturer: Onsemi; ValueManufacturerPartNumber: Linear voltage regulator, input 2.8...5.5V, 0.19V, 2.8V, 0.25A, -40...+125°C, SOT23-5; VoltageInput: input 2.8...5.5V; MaxDropout: 0.19V; CurrentOutput: 0.25A; VoltageOutput: 2.8V; HelpURL: https://www.onsemi.com/pdf/datasheet/ncv8163-d.pdf; Package: SOT23-5; ComponentType: Linear voltage regulator; Temperature: -40...+125°C
footprint SOT23-5 (pitch 0.95 mm)
pins: 1 VIN, 2 GND, 3 EN (in), 4 NC, 5 VOUT

## REF102
designator D?  PartNumber: REF102AU
Voltage References; Manufacturer: Texas Instruments; ValueManufacturerPartNumber: Voltage Reference, 11.4...36V, 10V, ±0.1% 10ppm/°C, -25...+85°C, 8-SOIC; VoltageInput: 11.4...36V; VoltageOutput: 10V; Tolerance: ±0.1% 10ppm/°C; HelpURL: https://www.digikey.com/en/products/detail/texas-instruments/REF102AU/301475; Package: 8-SOIC; ComponentType: Voltage Reference; Temperature: -25...+85°C
footprint 8-SOIC (pitch 1.27 mm)
pins: 2 VCC (power), 4 COM, 5 TRIM, 6 VOUT (out), 8 N/R

## REF35160QDBVR
designator D?  PartNumber: REF35160QDBVR
Voltage References; Manufacturer: Texas Instruments; ValueManufacturerPartNumber: Voltage Reference, 1.85...6V, 1.6V, ±0.05% 12ppm/°C, -40...+125°C, SOT-23-6; VoltageInput: 1.85...6V; VoltageOutput: 1.6V; Tolerance: ±0.05% 12ppm/°C; HelpURL: https://www.ti.com/lit/ds/symlink/ref35.pdf?HQS=dis-mous-null-mousermode-dsf-pf-null-wwe&ts=1701094030684&ref_url=https%253A%252F%252Fwww.mouser.de%252F; Package: SOT-23-6; ComponentType: Voltage Reference; Temperature: -40...+125°C
footprint SOT23-6 (pitch 0.95 mm)
pins: 1 GND (power), 2 GND (power), 3 EN (in), 4 VIN (power), 5 NR, 6 VREF (power)

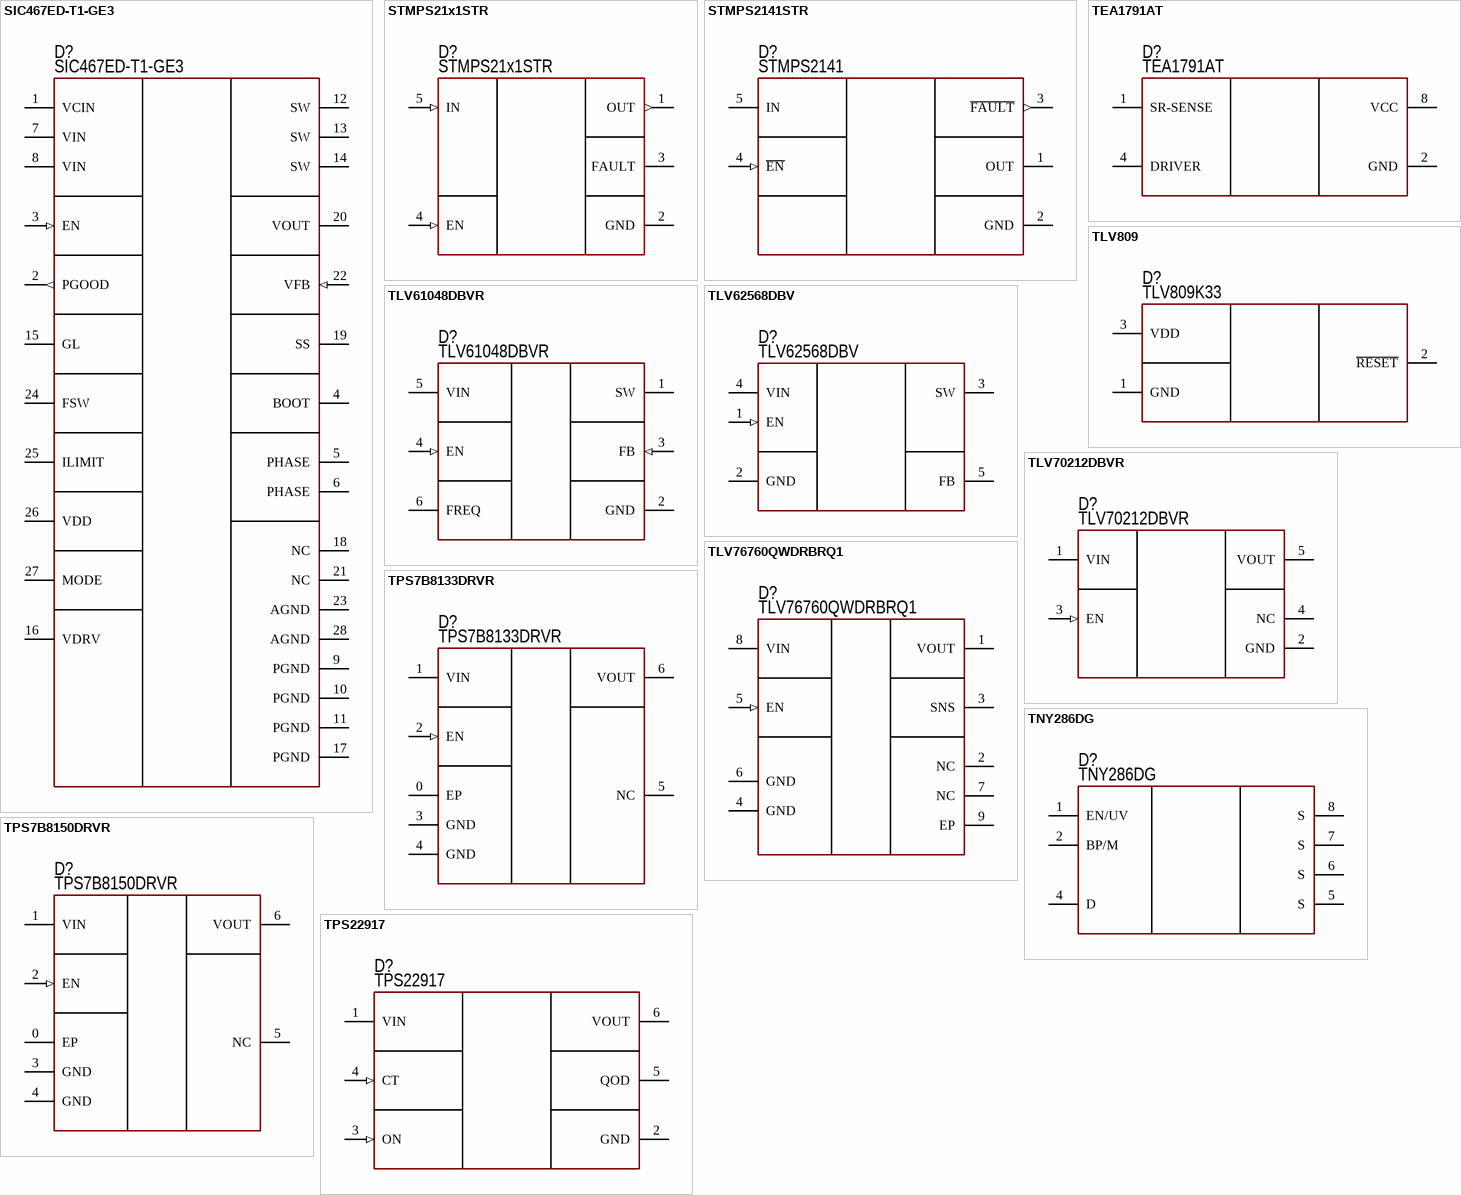
[diagram p3: symbols SIC467ED-T1-GE3 to TPS22917]

## SIC467ED-T1-GE3
designator D?  PartNumber: SIC467ED-T1-GE3
Buck controller; Manufacturer: Vishay; ValueManufacturerPartNumber: DC/DC buck controller, input 4.5...60V, 0.1...2MHz, 0.8...55.2V, 6A, -40...+125°C, MLP55-27; VoltageInput: input 4.5...60V; Frequency: 0.1...2MHz; CurrentOutput: 6A; VoltageOutput: 0.8...55.2V; HelpURL: https://www.vishay.com/doc?76044; Package: MLP55-27; ComponentType: DC/DC buck controller; Temperature: -40...+125°C
footprint IC: MLP27-55 BW
pins: 1 VCIN (power), 2 PGOOD (out), 3 EN (in), 4 BOOT, 5 PHASE, 6 PHASE, 7 VIN (power), 8 VIN (power), 9 PGND (power), 10 PGND (power), 11 PGND (power), 12 SW, 13 SW, 14 SW, 15 GL, 16 VDRV, 17 PGND (power), 18 NC, 19 SS, 20 VOUT, 21 NC, 22 VFB (in), 23 AGND (power), 24 FSW, 25 ILIMIT, 26 VDD (power), 27 MODE, 28 AGND (power)

## STMPS21x1STR
designator D?  PartNumber: STMPS21x1STR
Single channel power switche; Manufacturer: STMicroelectronics; Voltage: 5.5V; CurrentOutput: 500/1000 mA; HelpURL: https://www.st.com/content/st_com/en/products/switches-and-multiplexers/power-load-switches/stmps2151.html; Package: SOT23-5; ComponentType: Enhanced single channel power switche; ValueManufacturerPartNumber: =ComponentType+', '+VoltageInput+', '+Frequency+', '+VoltageOutput+', '+CurrentOutput+', '+Temperature+', '+Package; Temperature: -40...+85°C; Supplier 1: Digi-Key; Supplier Part Number 1: 497-6934-1-ND
footprint SOT23-5 (pitch 0.95 mm)
pins: 1 OUT (out), 2 GND, 3 FAULT, 4 EN (in), 5 IN (in)

## STMPS2141STR
designator D?  PartNumber: STMPS2141
Load Switch; Manufacturer: ST; VoltageInput: input 2.5...5.5V; CurrentOutput: 1A; HelpURL: https://datasheet.lcsc.com/lcsc/1811022015_STMicroelectronics-STMPS2141STR_C54624.pdf; Package: SOT23-5L; ComponentType: Power Switch; ValueManufacturerPartNumber: =ComponentType+', '+VoltageInput+', '+MaxDropout+', '+VoltageOutput+', '+CurrentOutput+', '+Temperature+', '+Package; Temperature: -40...+125°C
footprint SOT23-5 (pitch 0.95 mm)
pins: 1 OUT, 2 GND, 3 ~{FAULT} (out), 4 ~{EN} (in), 5 IN

## TEA1791AT
designator D?  PartNumber: TEA1791AT
Synchronous rectification; Manufacturer: NXP; ValueManufacturerPartNumber: Synchronous rectification, input 8.5...38V, 1MHz, ExternalSwitch, Controller, -40...+150°C, 8-SOIC; VoltageInput: input 8.5...38V; Frequency: 1MHz; TypeConverter: Controller; OutputType: ExternalSwitch; HelpURL: https://www.digikey.com/product-detail/en/nxp-usa-inc/TEA1791AT-N1118/568-5964-1-ND/2531251; Package: 8-SOIC; ComponentType: Synchronous rectification; Temperature: -40...+150°C
footprint 8-SOIC (pitch 1.27 mm)
pins: 1 SR-SENSE, 2 GND, 4 DRIVER, 8 VCC

## TLV809
designator D?  PartNumber: TLV809K33
Supply Voltage Supervisors; Manufacturer: Texas Instruments; HelpURL: https://datasheet.lcsc.com/szlcsc/1809111521_Texas-Instruments-TLV809K33DBVR_C48241.pdf; Package: SOT-23-3; ComponentType: Supply Voltage Supervisors; ValueManufacturerPartNumber: =ComponentType+', '+VoltageInput+', '+MaxDropout+', '+VoltageOutput+', '+CurrentOutput+', '+Temperature+', '+Package; Temperature: -40...+85°C
footprint SOT23
pins: 1 GND (power), 2 ~{RESET} (power), 3 VDD (power)

## TLV61048DBVR
designator D?  PartNumber: TLV61048DBVR
Boost converter; Manufacturer: Texas Instruments; ValueManufacturerPartNumber: DC/DC boost converter, input 2.65...5.5V, 600kHz/1MHz, output 3...14V, 3.7A, -40...+125°C, SOT23-6; VoltageInput: input 2.65...5.5V; Frequency: 600kHz/1MHz; CurrentOutput: 3.7A; VoltageOutput: output 3...14V; HelpURL: https://datasheet.lcsc.com/lcsc/2303010900_Texas-Instruments-TLV61048DBVR_C2861467.pdf; Package: SOT23-6; ComponentType: DC/DC boost converter; Temperature: -40...+125°C
footprint SOT23-6 (pitch 0.95 mm)
pins: 1 SW, 2 GND, 3 FB (in), 4 EN (in), 5 VIN, 6 FREQ

## TLV62568DBV
designator D?  PartNumber: TLV62568DBV
Buck converter; Manufacturer: Texas Instruments; ValueManufacturerPartNumber: DC/DC buck converter, input 2.5...5.5V, 1.5MHz, output 0.6V, 1A, -40...+85°C, SOT23-5; VoltageInput: input 2.5...5.5V; Frequency: 1.5MHz; CurrentOutput: 1A; VoltageOutput: output 0.6V; HelpURL: https://www.digikey.com/product-detail/en/texas-instruments/TLV62568DBVT/296-47387-1-ND/7688580; Package: SOT23-5; ComponentType: DC/DC buck converter; Temperature: -40...+85°C
footprint SOT23-5 (pitch 0.95 mm)
pins: 1 EN (in), 2 GND, 3 SW, 4 VIN, 5 FB

## TLV70212DBVR
designator D?  PartNumber: TLV70212DBVR
Linear voltage regulator 1.2V; Manufacturer: Texas Instruments; ValueManufacturerPartNumber: Linear voltage regulator, 2...5.5V, 0.26V, 1.2V, 0.3A, -40...+85°C, SOT23-5; VoltageInput: 2...5.5V; MaxDropout: 0.26V; CurrentOutput: 0.3A; HelpURL: https://www.lcsc.com/datasheet/lcsc_datasheet_1810121324_Texas-Instruments-TLV70212DBVR_C81462.pdf; Package: SOT23-5; ComponentType: Linear voltage regulator; Temperature: -40...+85°C; VoltageOutput: 1.2V
footprint SOT23-5 (pitch 0.95 mm)
pins: 1 VIN (power), 2 GND (power), 3 EN (in), 4 NC, 5 VOUT (power)

## TLV76760QWDRBRQ1
designator D?  PartNumber: TLV76760QWDRBRQ1
Linear voltage regulator; Manufacturer: Texas Instruments; ValueManufacturerPartNumber: Linear voltage regulator, input 2.5...16V, 0.9 V, output 5V, 1 A, -40...+125°C, SON-8; VoltageInput: input 2.5...16V; MaxDropout: 0.9 V; CurrentOutput: 1 A; VoltageOutput: output 5V; HelpURL: https://www.ti.com/lit/ds/symlink/tlv767-q1.pdf?HQS=dis-mous-null-mousermode-dsf-pf-null-wwe&ts=1695380461114&ref_url=https%253A%252F%252Feu.mouser.com%252F; Package: SON-8; ComponentType: Linear voltage regulator; Temperature: -40...+125°C
footprint SON-8
pins: 1 VOUT, 2 NC, 3 SNS, 4 GND, 5 EN (in), 6 GND, 7 NC, 8 VIN, 9 EP

## TNY286DG
designator D?  PartNumber: TNY286DG
AC/DC converter; Manufacturer: Power Integrations; ValueManufacturerPartNumber: AC/DC flyback converter, 725V, 124...140kHz, 13W, supply 6.8...25V, -40...+150°C, 8-SOIC; MaxInternalVoltage: 725V; Frequency: 124...140kHz; PowerOutput: 13W; VoltageSupply: supply 6.8...25V; HelpURL: https://www.digikey.com/product-detail/en/power-integrations/TNY286DG/596-1581-ND/4171962; Package: 8-SOIC; ComponentType: AC/DC flyback converter; Temperature: -40...+150°C
footprint IC: TNY286DG
pins: 1 EN/UV, 2 BP/M, 4 D, 5 S, 6 S, 7 S, 8 S

## TPS7B8133DRVR
designator D?  PartNumber: TPS7B8133DRVR
Linear voltage regulator 3.3V; Manufacturer: Texas Instruments; ValueManufacturerPartNumber: Linear voltage regulator, 3..40V, 0.3V, 3.3V, 150mA, -40...+125°C, WSON-6; VoltageInput: 3..40V; MaxDropout: 0.3V; CurrentOutput: 150mA; HelpURL: https://www.ti.com/lit/gpn/tps7b81; Package: WSON-6; ComponentType: Linear voltage regulator; Temperature: -40...+125°C; VoltageOutput: 3.3V
footprint 6-WSON
pins: 0 EP, 1 VIN, 2 EN (in), 3 GND, 4 GND, 5 NC, 6 VOUT

## TPS7B8150DRVR
designator D?  PartNumber: TPS7B8150DRVR
Linear voltage regulator 5.0V; Manufacturer: Texas Instruments; ValueManufacturerPartNumber: Linear voltage regulator, 3..40V, 0.3V, 5V, 150mA, -40...+125°C, WSON-6; VoltageInput: 3..40V; MaxDropout: 0.3V; CurrentOutput: 150mA; VoltageOutput: 5V; HelpURL: https://www.ti.com/lit/gpn/tps7b81; Package: WSON-6; ComponentType: Linear voltage regulator; Temperature: -40...+125°C
footprint 6-WSON
pins: 0 EP, 1 VIN, 2 EN (in), 3 GND, 4 GND, 5 NC, 6 VOUT

## TPS22917
designator D?  PartNumber: TPS22917
Load Switch; Manufacturer: Texas Instruments; VoltageInput: input 1...5.5V; CurrentOutput: 2A; HelpURL: https://www.ti.com/lit/ds/symlink/tps22917.pdf?ts=1612264781122&ref_url=https%253A%252F%252Fwww.ti.com%252Fpower-management%252Fpower-switches%252Fload-switches%252Fproducts.html; Package: SOT23-6; ComponentType: Load Switch; ValueManufacturerPartNumber: =ComponentType+', '+VoltageInput+', '+MaxDropout+', '+VoltageOutput+', '+CurrentOutput+', '+Temperature+', '+Package; Temperature: -40...+125°C
footprint SOT23-6 (pitch 0.95 mm)
pins: 1 VIN, 2 GND, 3 ON (in), 4 CT (in), 5 QOD, 6 VOUT

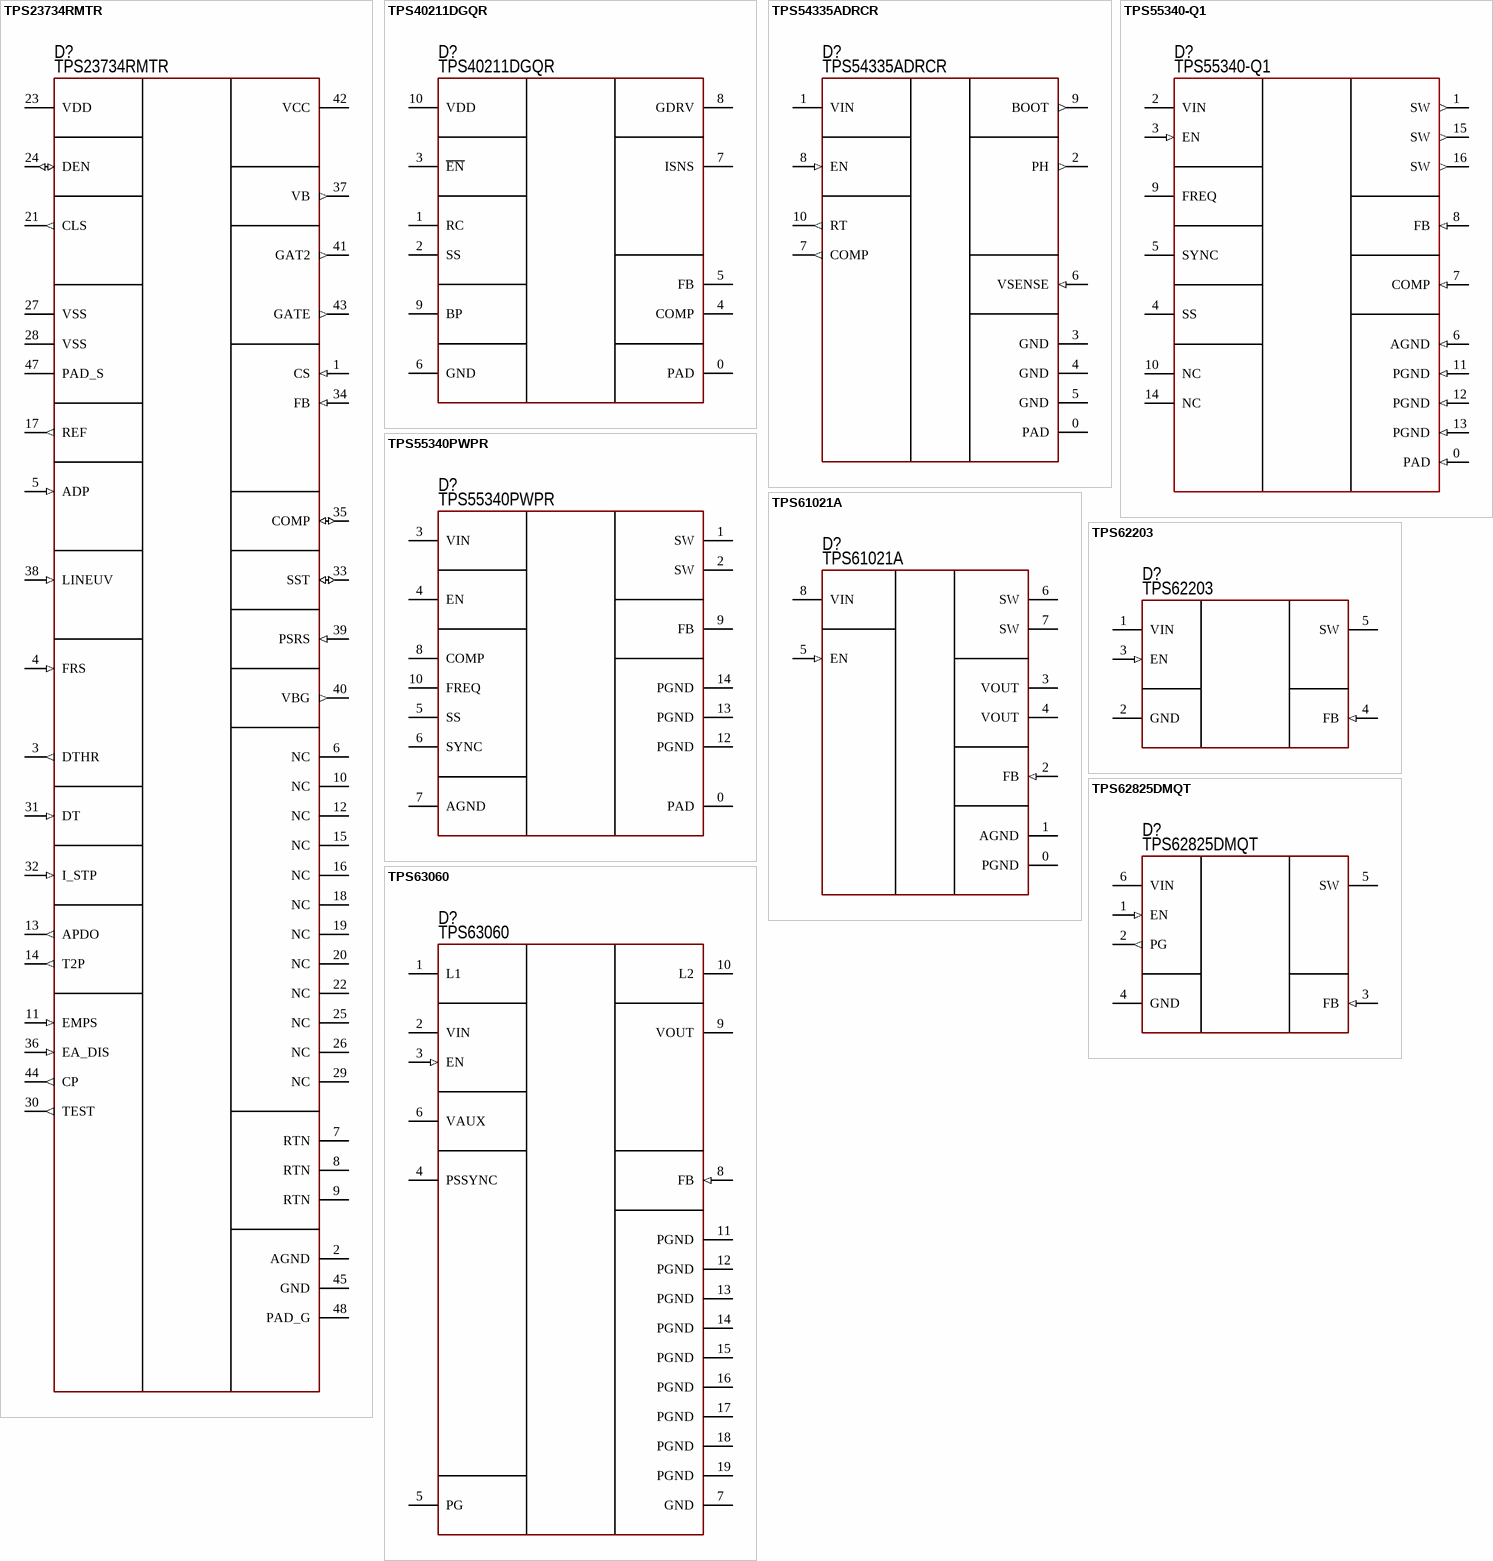
[diagram p4: symbols TPS23734RMTR to TPS63060]

## TPS23734RMTR
designator D?  PartNumber: TPS23734RMTR
POE PD 802.3bt type 3 class 1-4; Manufacturer: Texas Instruments; ValueManufacturerPartNumber: POE PD, input 37...57V, 250kHz, , 30W, -40...+125°C, VQFN (45); VoltageInput: input 37...57V; Frequency: 250kHz; CurrentOutput: 30W; HelpURL: https://www.ti.com/lit/gpn/tps23734; Package: VQFN (45); ComponentType: POE PD; Temperature: -40...+125°C
footprint 10-PWSON (3x3 mm, pitch 0.5 mm, power pad with additional pins)
pins: 1 CS (in), 2 AGND, 3 DTHR (out), 4 FRS (in), 5 ADP (in), 6 NC, 7 RTN, 8 RTN, 9 RTN, 10 NC, 11 EMPS (in), 12 NC, 13 APDO (out), 14 T2P (out), 15 NC, 16 NC, 17 REF (out), 18 NC, 19 NC, 20 NC, 21 CLS (out), 22 NC, 23 VDD (power), 24 DEN (io), 25 NC, 26 NC, 27 VSS (power), 28 VSS (power), 29 NC, 30 TEST (out), 31 DT (in), 32 I_STP (in), 33 SST (io), 34 FB (in), 35 COMP (io), 36 EA_DIS (in), 37 VB (out), 38 LINEUV (in), 39 PSRS (in), 40 VBG (out), 41 GAT2 (out), 42 VCC (power), 43 GATE (out), 44 CP (out), 45 GND (power), 47 PAD_S, 48 PAD_G

## TPS40211DGQR
designator D?  PartNumber: TPS40211DGQR
Boost controller; Manufacturer: Texas Instruments; ValueManufacturerPartNumber: DC/DC boost controller, input 4.5...52V, 35...1500 kHz, output max 52V, PWM output, -40...+85°C, 10-MSOP; VoltageInput: input 4.5...52V; Frequency: 35...1500 kHz; CurrentOutput: PWM output; VoltageOutput: output max 52V; HelpURL: https://www.digikey.com/product-detail/en/texas-instruments/TPS40211DGQR/296-39398-1-ND/5143349; Package: 10-MSOP; ComponentType: DC/DC boost controller; Temperature: -40...+85°C
footprint 10-MSOP-PAD (3x3 mm, pitch 0.5 mm)
pins: 0 PAD, 1 RC, 2 SS, 3 ~{EN}, 4 COMP, 5 FB, 6 GND, 7 ISNS, 8 GDRV, 9 BP, 10 VDD

## TPS54335ADRCR
designator D?  PartNumber: TPS54335ADRCR
Buck converter; Manufacturer: Texas Instrumensts; ValueManufacturerPartNumber: DC/DC buck converter, input 4.5...28V, 50kHz...1.5MHz, 0.8V...24V, 3A, -40...+150°C, VSON (10); VoltageInput: input 4.5...28V; Frequency: 50kHz...1.5MHz; CurrentOutput: 3A; VoltageOutput: 0.8V...24V; HelpURL: https://www.ti.com/lit/ds/symlink/tps54335-1a.pdf?ts=1672858661447&ref_url=https%253A%252F%252Fwww.ti.com%252Fpower-management%252Fnon-isolated-dc-dc-switching-regulators%252Fstep-down-buck%252Fbuck-converter-integrated-switch%252Fproducts.html; Package: VSON (10); ComponentType: DC/DC buck converter; Temperature: -40...+150°C
footprint 10-VSON (3x3 mm, pitch 0.5 mm, power pad)
pins: 0 PAD (power), 1 VIN (power), 2 PH (out), 3 GND (power), 4 GND (power), 5 GND (power), 6 VSENSE (in), 7 COMP (out), 8 EN (in), 9 BOOT (out), 10 RT (out)

## TPS55340-Q1
designator D?  PartNumber: TPS55340-Q1
Buck converter; Manufacturer: Texas Instruments; ValueManufacturerPartNumber: DC/DC boost converter, input 2.9...38V, 100kHz... 2.5MHz, output -5... 40V, 5A, -40...+125°C, WQFN (16); VoltageInput: input 2.9...38V; Frequency: 100kHz... 2.5MHz; CurrentOutput: 5A; VoltageOutput: output -5... 40V; HelpURL: https://www.ti.com/lit/ds/symlink/tps55340-q1.pdf?ts=1612364507432&ref_url=https%253A%252F%252Fwww.ti.com%252Fproduct%252FTPS55340-Q1; Package: WQFN (16); ComponentType: DC/DC boost converter; Temperature: -40...+125°C
footprint 16-QFN (3x3) (3x3 mm, pitch 0.5 mm)
pins: 0 PAD (in), 1 SW (out), 2 VIN, 3 EN (in), 4 SS, 5 SYNC, 6 AGND (in), 7 COMP (in), 8 FB (in), 9 FREQ, 10 NC, 11 PGND (in), 12 PGND (in), 13 PGND (in), 14 NC, 15 SW (out), 16 SW (out)

## TPS55340PWPR
designator D?  PartNumber: TPS55340PWPR
Boost converter; Manufacturer: Texas Instruments; ValueManufacturerPartNumber: DC/DC boost converter, input 2.9...32V, 94...1140 kHz, max output 38V, 2A, -40...+125°C, 14-HTSSOP; VoltageInput: input 2.9...32V; Frequency: 94...1140 kHz; CurrentOutput: 2A; VoltageOutput: max output 38V; HelpURL: https://www.digikey.com/product-detail/en/texas-instruments/TPS55340PWPR/296-39426-1-ND/5143375; Package: 14-HTSSOP; ComponentType: DC/DC boost converter; Temperature: -40...+125°C
footprint 14-TSOP-PAD (pitch 0.65 mm, power pad)
pins: 0 PAD, 1 SW, 2 SW, 3 VIN, 4 EN, 5 SS, 6 SYNC, 7 AGND, 8 COMP, 9 FB, 10 FREQ, 12 PGND, 13 PGND, 14 PGND

## TPS61021A
designator D?  PartNumber: TPS61021A
Boost converter; Manufacturer: Texas Instruments; ValueManufacturerPartNumber: DC/DC boost converter, input 0.5...4.4V, 2MHz, output 1.8...4V, 1.5A, -40...+125°C, 8-WSON; VoltageInput: input 0.5...4.4V; Frequency: 2MHz; CurrentOutput: 1.5A; VoltageOutput: output 1.8...4V; HelpURL: https://www.ti.com/lit/ds/symlink/tps61021a.pdf?HQS=dis-mous-null-mousermode-dsf-pf-null-wwe&ts=1688493219751&ref_url=https%253A%252F%252Fwww.mouser.ee%252F; Package: 8-WSON; ComponentType: DC/DC boost converter; Temperature: -40...+125°C
footprint 8-WSON (2x2) (3x3 mm, pitch 0.5 mm, power pad)
pins: 0 PGND, 1 AGND, 2 FB (in), 3 VOUT (power), 4 VOUT (power), 5 EN (in), 6 SW, 7 SW, 8 VIN

## TPS62203
designator D?  PartNumber: TPS62203
Buck converter; Manufacturer: Texas Instrumensts; ValueManufacturerPartNumber: DC/DC buck converter, input 2.5...6.0V, 1MHz, fixed 3.3V, 0.3A, -40...+85°C, SOT23-5; VoltageInput: input 2.5...6.0V; Frequency: 1MHz; CurrentOutput: 0.3A; VoltageOutput: fixed 3.3V; HelpURL: https://www.ti.com/lit/ds/symlink/tps62203.pdf?ts=1662966380888&ref_url=https%253A%252F%252Fwww.ti.com%252Fproduct%252FTPS62203; Package: SOT23-5; ComponentType: DC/DC buck converter; Temperature: -40...+85°C
footprint SOT23-5 (pitch 0.95 mm)
pins: 1 VIN, 2 GND, 3 EN (in), 4 FB (in), 5 SW

## TPS62825DMQT
designator D?  PartNumber: TPS62825DMQT
Buck converter; Manufacturer: Texas Instrumensts; ValueManufacturerPartNumber: DC/DC buck converter, input 2.4...5.5V, 2.2MHz, 0.6 V...4V, 1A, -40...+125°C, VSON-HR (6); VoltageInput: input 2.4...5.5V; Frequency: 2.2MHz; CurrentOutput: 1A; VoltageOutput: 0.6 V...4V; HelpURL: https://www.ti.com/lit/ds/symlink/tps62825.pdf?HQS=dis-mous-null-mousermode-dsf-pf-null-wwe&ts=1664032941982&ref_url=https%253A%252F%252Fwww.mouser.ee%252F; Package: VSON-HR (6); ComponentType: DC/DC buck converter; Temperature: -40...+125°C
footprint 6-VSON-HR (pitch 0.5 mm)
pins: 1 EN (in), 2 PG (out), 3 FB (in), 4 GND, 5 SW, 6 VIN

## TPS63060
designator D?  PartNumber: TPS63060
Buck-boost converter; Manufacturer: Texas Instruments; ValueManufacturerPartNumber: DC/DC buck-boost converter, input 2.5...12V, 2.4MHz, output 2.5... 8V, 2/1.3A, -40...+125°C, WSON (10); VoltageInput: input 2.5...12V; Frequency: 2.4MHz; CurrentOutput: 2/1.3A; VoltageOutput: output 2.5... 8V; HelpURL: https://datasheet.lcsc.com/szlcsc/1808031710_Texas-Instruments-TPS63060DSCR_C48567.pdf; Package: WSON (10); ComponentType: DC/DC buck-boost converter; Temperature: -40...+125°C
footprint 10-PWSON (3x3 mm, pitch 0.5 mm, power pad with additional pins)
pins: 1 L1, 2 VIN (power), 3 EN (in), 4 PSSYNC, 5 PG, 6 VAUX, 7 GND, 8 FB (in), 9 VOUT (power), 10 L2, 11 PGND, 12 PGND, 13 PGND, 14 PGND, 15 PGND, 16 PGND, 17 PGND, 18 PGND, 19 PGND

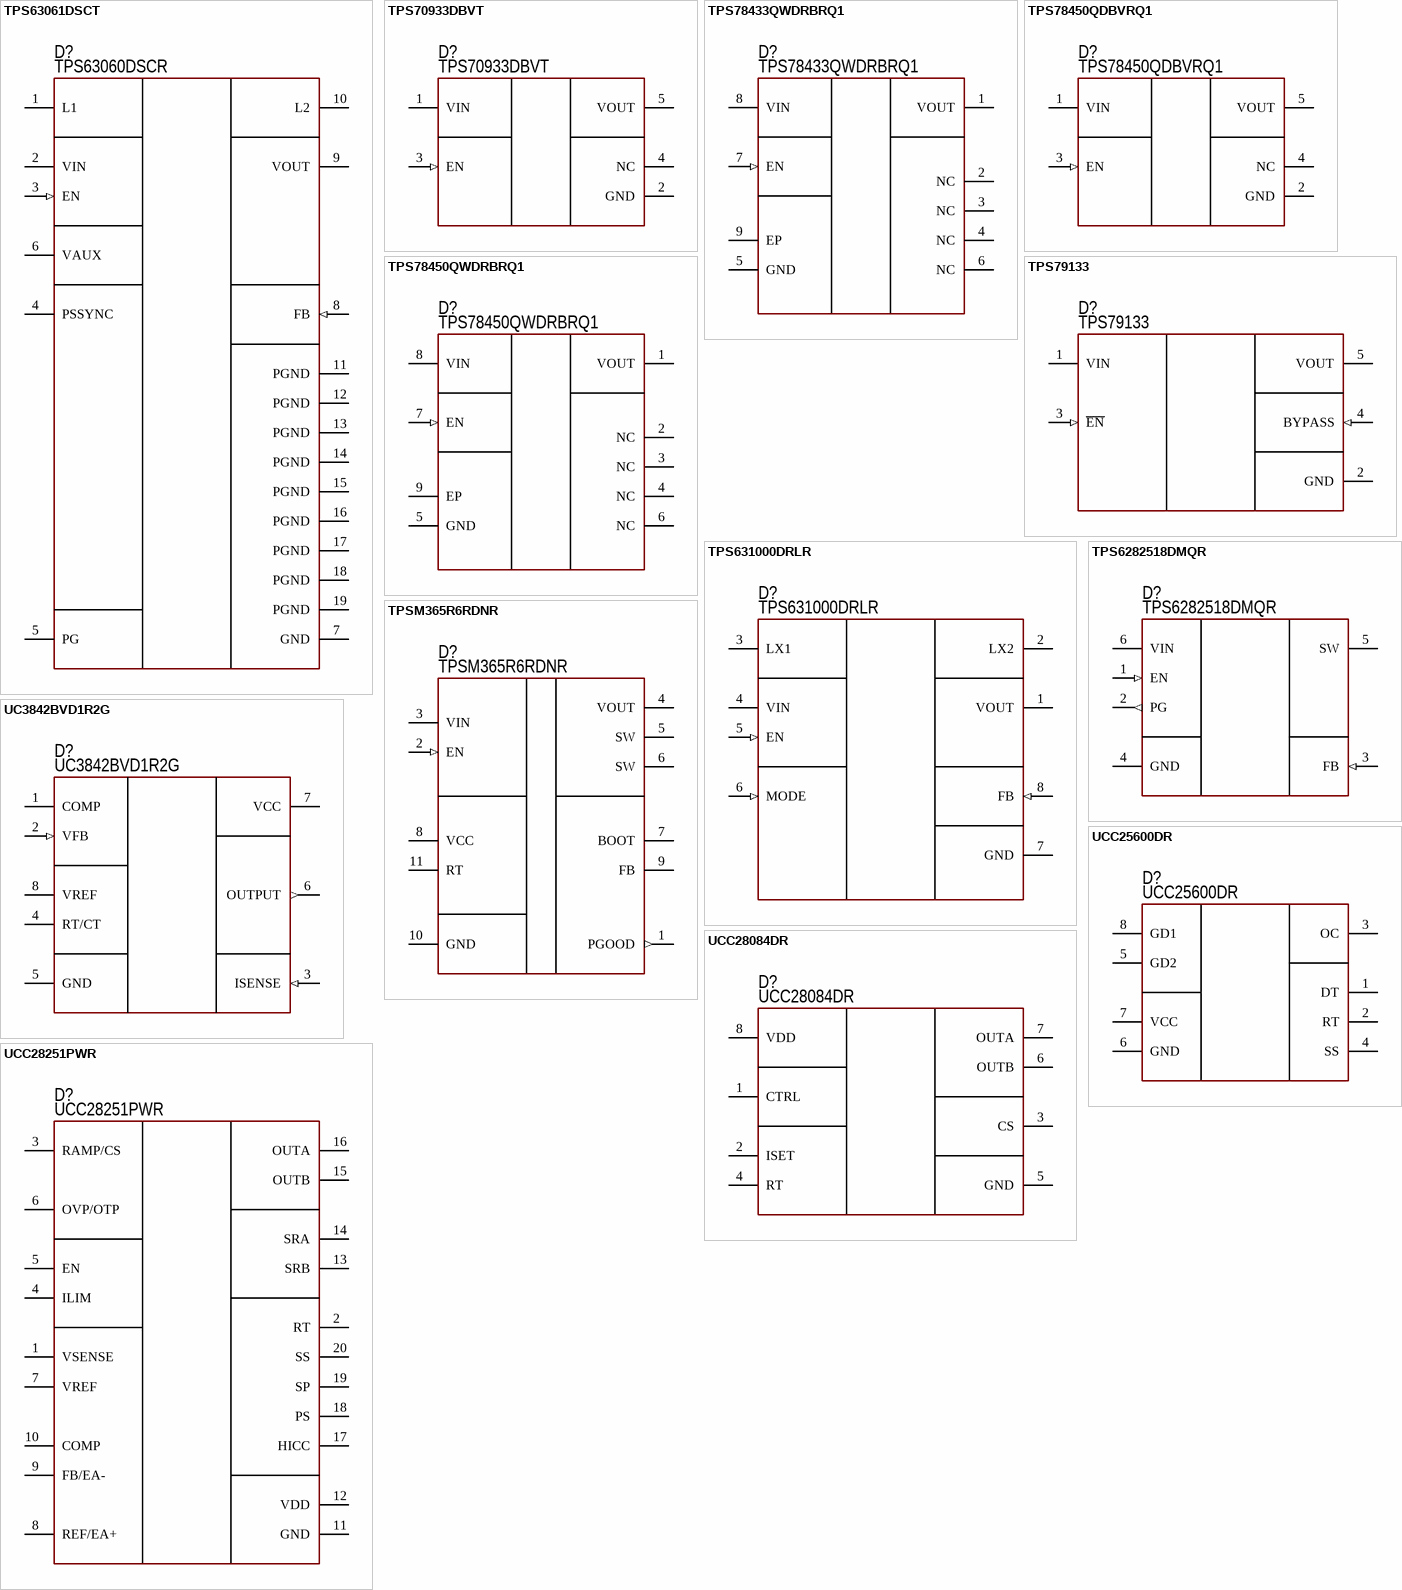
[diagram p5: symbols TPS63061DSCT to UCC28251PWR]

## TPS63061DSCT
designator D?  PartNumber: TPS63060DSCR
Buck-boost; Manufacturer: Texas Instruments; ValueManufacturerPartNumber: Buck-Boost Converter, input 2.5...12V, output 2.5...8V, 2A (switch), -40...+125°C, WSON (10); VoltageInput: input 2.5...12V; CurrentOutput: 2A (switch); VoltageOutput: output 2.5...8V; HelpURL: https://datasheet.lcsc.com/szlcsc/1808031710_Texas-Instruments-TPS63060DSCR_C48567.pdf; Package: WSON (10); ComponentType: Buck-Boost Converter; Temperature: -40...+125°C
footprint 10-PWSON (3x3 mm, pitch 0.5 mm, power pad with additional pins)
pins: 1 L1, 2 VIN (power), 3 EN (in), 4 PSSYNC, 5 PG, 6 VAUX, 7 GND, 8 FB (in), 9 VOUT (power), 10 L2, 11 PGND, 12 PGND, 13 PGND, 14 PGND, 15 PGND, 16 PGND, 17 PGND, 18 PGND, 19 PGND

## TPS70933DBVT
designator D?  PartNumber: TPS70933DBVT
Linear voltage regulator; Manufacturer: Texas Instruments; ValueManufacturerPartNumber: Linear voltage regulator, input 2.7...30V, 0.3V, 3.3V, 0.3A, -40...+125°C, SOT23-5; VoltageInput: input 2.7...30V; MaxDropout: 0.3V; CurrentOutput: 0.3A; VoltageOutput: 3.3V; HelpURL: https://www.ti.com/lit/ds/symlink/tps709.pdf?HQS=dis-mous-null-mousermode-dsf-pf-null-wwe&ts=1676801860833&ref_url=https%253A%252F%252Fwww.mouser.ee%252F; Package: SOT23-5; ComponentType: Linear voltage regulator; Temperature: -40...+125°C
footprint SOT23-5 (pitch 0.95 mm)
pins: 1 VIN, 2 GND, 3 EN (in), 4 NC, 5 VOUT

## TPS78433QWDRBRQ1
designator D?  PartNumber: TPS78433QWDRBRQ1
Linear voltage regulator; Manufacturer: Texas Instruments; ValueManufacturerPartNumber: Linear voltage regulator, input 1.65...6V, 0.9V, output 3.3V, 0.3A, -40...+125°C, SON-8; VoltageInput: input 1.65...6V; MaxDropout: 0.9V; CurrentOutput: 0.3A; VoltageOutput: output 3.3V; HelpURL: https://www.ti.com/lit/ds/symlink/tps784-q1.pdf?HQS=dis-mous-null-mousermode-dsf-pf-null-wwe&ts=1672677287228&ref_url=https%253A%252F%252Fwww.mouser.ee%252F; Package: SON-8; ComponentType: Linear voltage regulator; Temperature: -40...+125°C
footprint SON-8
pins: 1 VOUT, 2 NC, 3 NC, 4 NC, 5 GND, 6 NC, 7 EN (in), 8 VIN, 9 EP

## TPS78450QDBVRQ1
designator D?  PartNumber: TPS78450QDBVRQ1
Linear voltage regulator; Manufacturer: Texas Instruments; ValueManufacturerPartNumber: Linear voltage regulator, input 1.65...6V, 0.9V, output 5V, 0.3A, -40...+125°C, SOT23-5; VoltageInput: input 1.65...6V; MaxDropout: 0.9V; CurrentOutput: 0.3A; VoltageOutput: output 5V; HelpURL: https://www.ti.com/lit/ds/symlink/tps784-q1.pdf?HQS=dis-mous-null-mousermode-dsf-pf-null-wwe&ts=1672677287228&ref_url=https%253A%252F%252Fwww.mouser.ee%252F; Package: SOT23-5; ComponentType: Linear voltage regulator; Temperature: -40...+125°C
footprint SOT23-5 (pitch 0.95 mm)
pins: 1 VIN, 2 GND, 3 EN (in), 4 NC, 5 VOUT

## TPS78450QWDRBRQ1
designator D?  PartNumber: TPS78450QWDRBRQ1
Linear voltage regulator; Manufacturer: Texas Instruments; ValueManufacturerPartNumber: Linear voltage regulator, input 1.65...6V, 0.9V, output 5V, 0.3A, -40...+125°C, SON-8; VoltageInput: input 1.65...6V; MaxDropout: 0.9V; CurrentOutput: 0.3A; VoltageOutput: output 5V; HelpURL: https://www.ti.com/lit/ds/symlink/tps784-q1.pdf?HQS=dis-mous-null-mousermode-dsf-pf-null-wwe&ts=1672677287228&ref_url=https%253A%252F%252Fwww.mouser.ee%252F; Package: SON-8; ComponentType: Linear voltage regulator; Temperature: -40...+125°C
footprint SON-8
pins: 1 VOUT, 2 NC, 3 NC, 4 NC, 5 GND, 6 NC, 7 EN (in), 8 VIN, 9 EP

## TPS79133
designator D?  PartNumber: TPS79133
Low-Dropout Regulator; Manufacturer: Texas Instruments; VoltageInput: input 3.5... 6V; CurrentOutput: 0.1A; VoltageOutput: output 3.3V; HelpURL: https://datasheet.lcsc.com/szlcsc/1809251721_Texas-Instruments-TPS79133DBVR_C9838.pdf; Package: SOT23-5; ComponentType: Low-Dropout Regulator; ValueManufacturerPartNumber: =ComponentType+', '+VoltageInput+', '+Frequency+', '+VoltageOutput+', '+CurrentOutput+', '+Temperature+', '+Package; Temperature: -40...+85°C
footprint SOT23-5 (pitch 0.95 mm)
pins: 1 VIN, 2 GND, 3 ~{EN} (in), 4 BYPASS (in), 5 VOUT

## TPS631000DRLR
designator D?  PartNumber: TPS631000DRLR
Buck-boost converter; Manufacturer: Texas Instruments; ValueManufacturerPartNumber: DC/DC buck-boost converter, 1.6...5.5V, 2.4MHz, 1.2...5.3V, 1.5A, -40...+125°C, SOT-583; VoltageInput: 1.6...5.5V; Frequency: 2.4MHz; CurrentOutput: 1.5A; VoltageOutput: 1.2...5.3V; HelpURL: https://www.ti.com/lit/ds/symlink/tps631000.pdf?ts=1735302154310&ref_url=https%253A%252F%252Fwww.ti.com%252Fproduct%252FTPS631000; Package: SOT-583; ComponentType: DC/DC buck-boost converter; Temperature: -40...+125°C
footprint SOT583-8 (pitch 0.5 mm)
pins: 1 VOUT (power), 2 LX2, 3 LX1, 4 VIN (power), 5 EN (in), 6 MODE (in), 7 GND, 8 FB (in)

## TPS6282518DMQR
designator D?  PartNumber: TPS6282518DMQR
Buck converter; Manufacturer: Texas Instrumensts; ValueManufacturerPartNumber: DC/DC buck converter, input 2.4...5.5V, 2.2MHz, fixed 1.8V, 1A, -40...+125°C, VSON-HR (6); VoltageInput: input 2.4...5.5V; Frequency: 2.2MHz; CurrentOutput: 1A; VoltageOutput: fixed 1.8V; HelpURL: https://www.ti.com/lit/ds/symlink/tps62825.pdf?HQS=dis-mous-null-mousermode-dsf-pf-null-wwe&ts=1664032941982&ref_url=https%253A%252F%252Fwww.mouser.ee%252F; Package: VSON-HR (6); ComponentType: DC/DC buck converter; Temperature: -40...+125°C
footprint 6-VSON-HR (pitch 0.5 mm)
pins: 1 EN (in), 2 PG (out), 3 FB (in), 4 GND, 5 SW, 6 VIN

## TPSM365R6RDNR
designator D?  PartNumber: TPSM365R6RDNR
Buck converter module; Manufacturer: Texas Instruments; ValueManufacturerPartNumber: DC/DC buck converter, 3...65V, 200kHz...2.2MHz, 1...13V, 600mA, -40...+125°C, 11-QFN-HR; VoltageInput: 3...65V; Frequency: 200kHz...2.2MHz; CurrentOutput: 600mA; VoltageOutput: 1...13V; HelpURL: https://www.ti.com/lit/ds/symlink/tpsm365r6.pdf?HQS=dis-mous-null-mousermode-dsf-pf-null-wwe&ts=1695143763507&ref_url=https%253A%252F%252Feu.mouser.com%252F; Package: 11-QFN-HR; ComponentType: DC/DC buck converter; Temperature: -40...+125°C
footprint MOD: TPSM365R6RDNR (Buck converted module)
pins: 1 PGOOD (out), 2 EN (in), 3 VIN (power), 4 VOUT (power), 5 SW, 6 SW, 7 BOOT, 8 VCC, 9 FB, 10 GND (power), 11 RT

## UC3842BVD1R2G
designator D?  PartNumber: UC3842BVD1R2G
PWM controller; Manufacturer: ON Semiconductor; ValueManufacturerPartNumber: PWM controller, supply 10...30V, 500kHz, External switch, -40...+105°C, 8-SOIC; VoltageInput: supply 10...30V; Frequency: 500kHz; OutputType: External switch; HelpURL: https://www.digikey.com/product-detail/en/on-semiconductor/UC3842BVD1R2G/UC3842BVD1R2GOSCT-ND/5802572; Package: 8-SOIC; ComponentType: PWM controller; Temperature: -40...+105°C
footprint 8-SOIC (pitch 1.27 mm)
pins: 1 COMP, 2 VFB (in), 3 ISENSE (in), 4 RT/CT, 5 GND, 6 OUTPUT (out), 7 VCC, 8 VREF

## UCC25600DR
designator D?  PartNumber: UCC25600DR
PWM controller; Manufacturer: Texas Instruments; ValueManufacturerPartNumber: PWM LLC controller, supply 11.5...18V, 350kHz, External switch, -40...+85°C, 8-SOIC; VoltageInput: supply 11.5...18V; Frequency: 350kHz; OutputType: External switch; HelpURL: https://www.digikey.com/product-detail/en/texas-instruments/UCC25600DR/296-38315-1-ND/4967520; Package: 8-SOIC; ComponentType: PWM LLC controller; Temperature: -40...+85°C
footprint 8-SOIC (pitch 1.27 mm)
pins: 1 DT, 2 RT, 3 OC, 4 SS, 5 GD2, 6 GND, 7 VCC, 8 GD1

## UCC28084DR
designator D?  PartNumber: UCC28084DR
PWM controller; Manufacturer: Texas Instruments; ValueManufacturerPartNumber: PWM controller, supply 4.1...15V, 200kHz, External switch, -40...+85°C, 8-SOIC; VoltageInput: supply 4.1...15V; Frequency: 200kHz; OutputType: External switch; HelpURL: https://www.digikey.com/product-detail/en/texas-instruments/UCC28084DR/296-39532-1-ND/5143475; Package: 8-SOIC; ComponentType: PWM controller; Temperature: -40...+85°C
footprint 8-SOIC (pitch 1.27 mm)
pins: 1 CTRL, 2 ISET, 3 CS, 4 RT, 5 GND, 6 OUTB, 7 OUTA, 8 VDD

## UCC28251PWR
designator D?  PartNumber: UCC28251PWR
PWM controller; Manufacturer: Texas Instruments; ValueManufacturerPartNumber: PWM controller, supply 4.7...17V, 42...945 kHz, PWM signal, -40...+125°C, 20-PowerTSSOP; VoltageInput: supply 4.7...17V; Frequency: 42...945 kHz; OutputType: PWM signal; HelpURL: https://www.digikey.com/product-detail/en/texas-instruments/UCC28251PWR/296-41053-1-ND/5178930; Package: 20-PowerTSSOP; ComponentType: PWM controller; Temperature: -40...+125°C
footprint 20-TSSOP (pitch 0.65 mm)
pins: 1 VSENSE, 2 RT, 3 RAMP/CS, 4 ILIM, 5 EN, 6 OVP/OTP, 7 VREF, 8 REF/EA+, 9 FB/EA-, 10 COMP, 11 GND, 12 VDD, 13 SRB, 14 SRA, 15 OUTB, 16 OUTA, 17 HICC, 18 PS, 19 SP, 20 SS

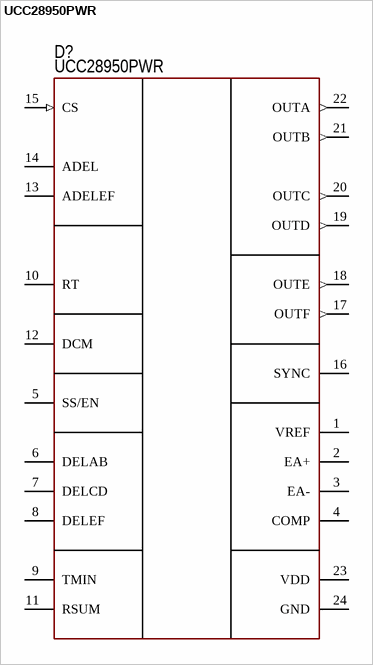
[diagram p6: symbol UCC28950PWR]

## UCC28950PWR
designator D?  PartNumber: UCC28950PWR
PWM controller; Manufacturer: Texas Instruments; ValueManufacturerPartNumber: PWM controller, supply 8...17V, 50...1000 kHz, PWM signal, -40...+125°C, 24-TSSOP; VoltageInput: supply 8...17V; Frequency: 50...1000 kHz; OutputType: PWM signal; HelpURL: https://www.digikey.com/product-detail/en/texas-instruments/UCC28950PWR/296-25884-1-ND/2241914; Package: 24-TSSOP; ComponentType: PWM controller; Temperature: -40...+125°C
footprint 24-TSSOP (pitch 0.65 mm)
pins: 1 VREF, 2 EA+, 3 EA-, 4 COMP, 5 SS/EN, 6 DELAB, 7 DELCD, 8 DELEF, 9 TMIN, 10 RT, 11 RSUM, 12 DCM, 13 ADELEF, 14 ADEL, 15 CS (in), 16 SYNC, 17 OUTF (out), 18 OUTE (out), 19 OUTD (out), 20 OUTC (out), 21 OUTB (out), 22 OUTA (out), 23 VDD, 24 GND